# Altium schematic symbol library MCU_ST_STM32F4.SchLib: 300 symbols (part 9 of 11)
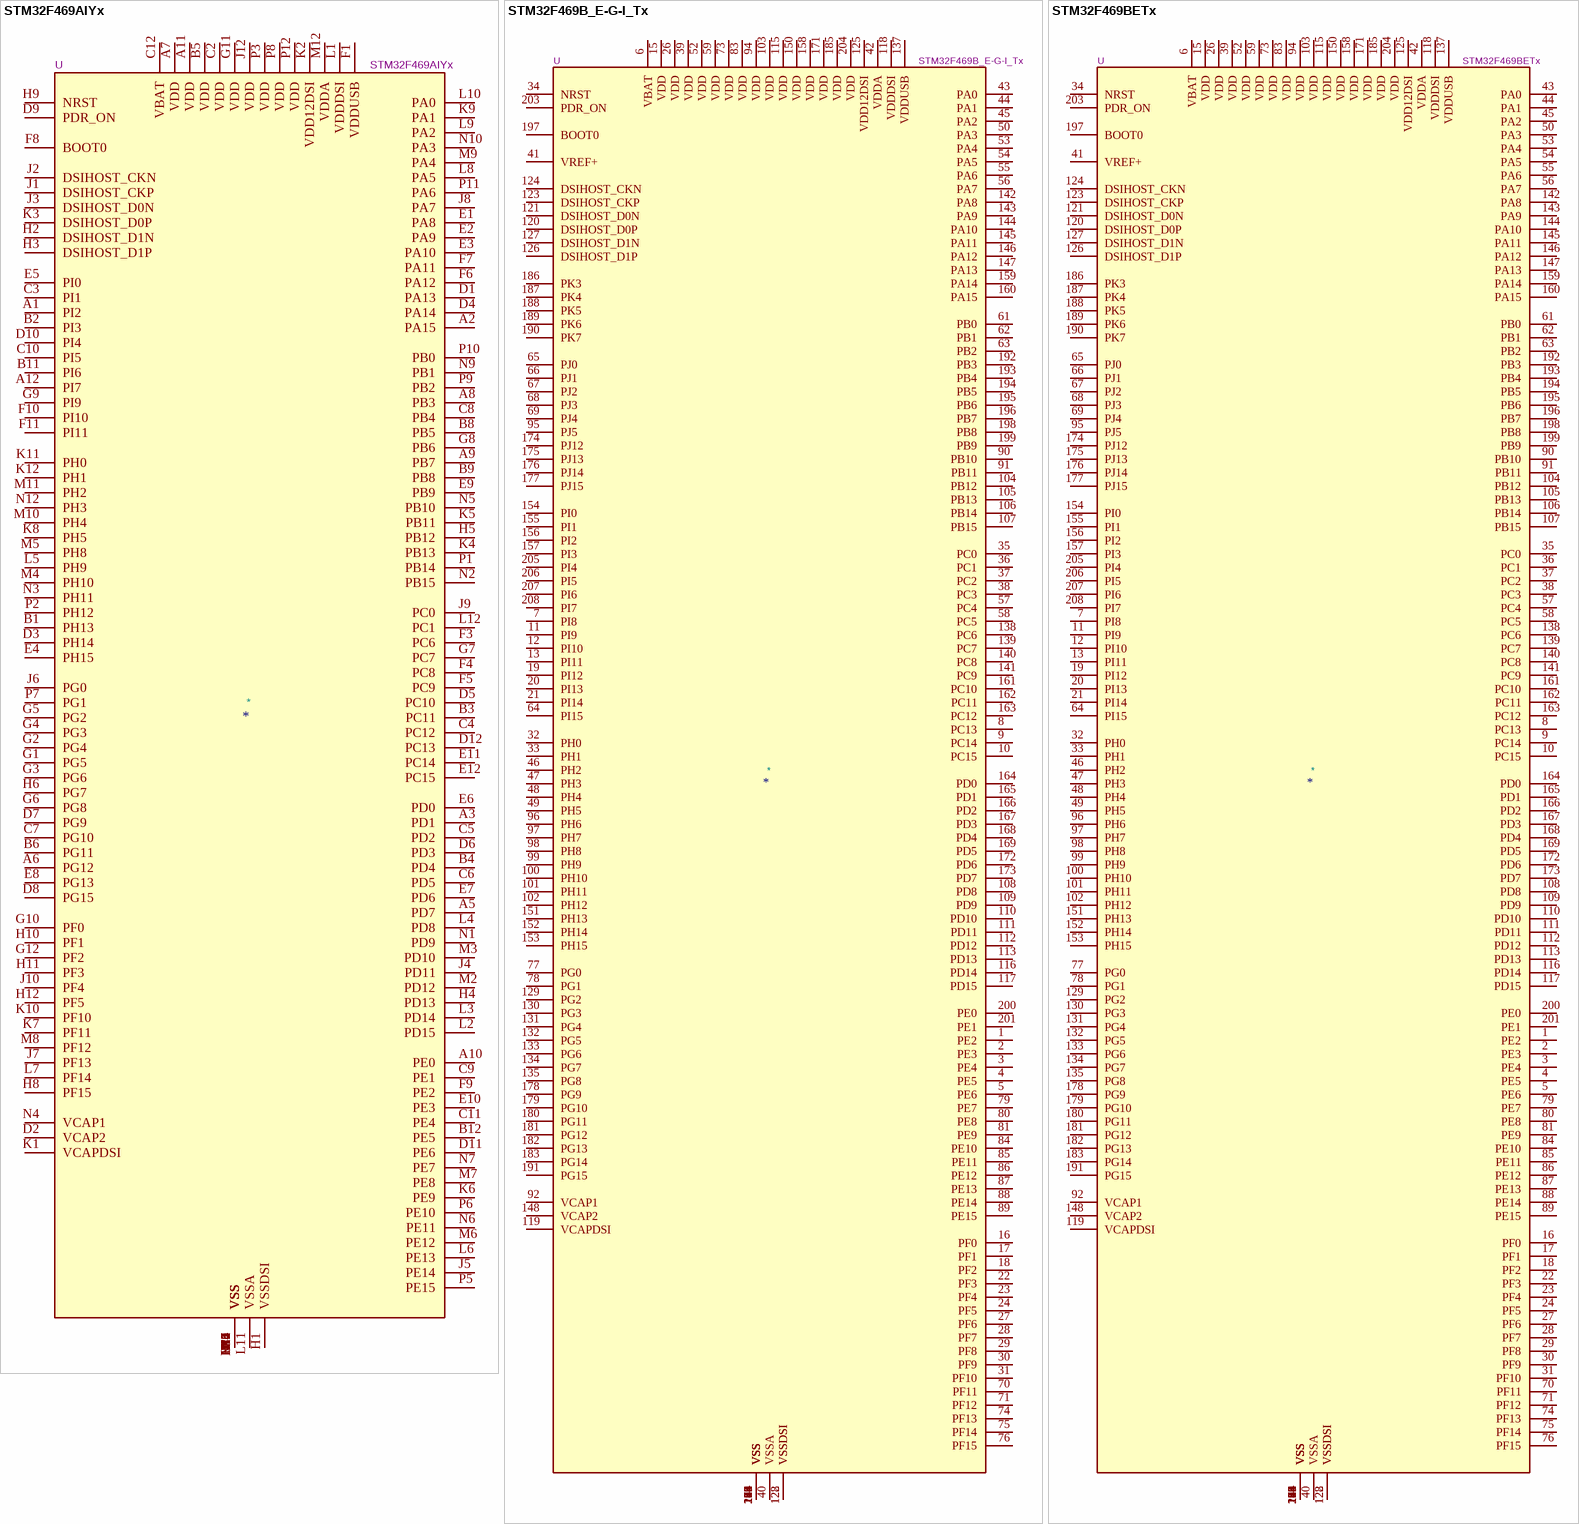
[diagram p90: symbols STM32F469AIYx to STM32F469BETx]

## STM32F469BETx
designator *  value STM32F469BETx  Reference: U
STMicroelectronics Arm Cortex-M4 MCU, 512KB flash, 384KB RAM, 180 MHz, 1.7-3.6V, 159 GPIO, LQFP208; ki_keywords: Arm Cortex-M4 STM32F4 STM32F469/479; ki_fp_filters: LQFP*28x28mm*P0.5mm*; Footprint: Package_QFP:LQFP-208_28x28mm_P0.5mm; Datasheet: https://www.st.com/resource/en/datasheet/stm32f469be.pdf; Description_: STMicroelectronics Arm Cortex-M4 MCU, 512KB flash, 384KB RAM, 180 MHz, 1.7-3.6V, 159 GPIO, LQFP208
pins: 1 PE2, 2 PE3, 3 PE4, 4 PE5, 5 PE6, 6 VBAT, 7 PI8, 8 PC13, 9 PC14, 10 PC15, 11 PI9, 12 PI10, 13 PI11, 14 VSS, 15 VDD, 16 PF0, 17 PF1, 18 PF2, 19 PI12, 20 PI13, 21 PI14, 22 PF3, 23 PF4, 24 PF5, 25 VSS, 26 VDD, 27 PF6, 28 PF7, 29 PF8, 30 PF9, 31 PF10, 32 PH0, 33 PH1, 34 NRST, 35 PC0, 36 PC1, 37 PC2, 38 PC3, 39 VDD, 40 VSSA, 41 VREF+, 42 VDDA, 43 PA0, 44 PA1, 45 PA2, 46 PH2, 47 PH3, 48 PH4, 49 PH5, 50 PA3, 51 VSS, 52 VDD, 53 PA4, 54 PA5, 55 PA6, 56 PA7, 57 PC4, 58 PC5, 59 VDD, 60 VSS, 61 PB0, 62 PB1, 63 PB2, 64 PI15, 65 PJ0, 66 PJ1, 67 PJ2, 68 PJ3, 69 PJ4, 70 PF11, 71 PF12, 72 VSS, 73 VDD, 74 PF13, 75 PF14, 76 PF15, 77 PG0, 78 PG1, 79 PE7, 80 PE8, 81 PE9, 82 VSS, 83 VDD, 84 PE10, 85 PE11, 86 PE12, 87 PE13, 88 PE14, 89 PE15, 90 PB10, 91 PB11, 92 VCAP1, 93 VSS, 94 VDD, 95 PJ5, 96 PH6, 97 PH7, 98 PH8, 99 PH9, 100 PH10, 101 PH11, 102 PH12, 103 VDD, 104 PB12, 105 PB13, 106 PB14, 107 PB15, 108 PD8, 109 PD9, 110 PD10, 111 PD11, 112 PD12, 113 PD13, 114 VSS, 115 VDD, 116 PD14, 117 PD15, 118 VDDDSI, 119 VCAPDSI, 120 DSIHOST_D0P, 121 DSIHOST_D0N, 122 VSSDSI, 123 DSIHOST_CKP, 124 DSIHOST_CKN, 125 VDD12DSI, 126 DSIHOST_D1P, 127 DSIHOST_D1N, 128 VSSDSI, 129 PG2, 130 PG3, 131 PG4, 132 PG5, 133 PG6, 134 PG7, 135 PG8, 136 VSS, 137 VDDUSB, 138 PC6, 139 PC7, 140 PC8, 141 PC9, 142 PA8, 143 PA9, 144 PA10, 145 PA11, 146 PA12, 147 PA13, 148 VCAP2, 149 VSS, 150 VDD, 151 PH13, 152 PH14, 153 PH15, 154 PI0, 155 PI1, 156 PI2, 157 PI3, 158 VDD, 159 PA14, 160 PA15, 161 PC10, 162 PC11, 163 PC12, 164 PD0, 165 PD1, 166 PD2, 167 PD3, 168 PD4, 169 PD5, 170 VSS, 171 VDD, 172 PD6, 173 PD7, 174 PJ12, 175 PJ13, 176 PJ14, 177 PJ15, 178 PG9, 179 PG10, 180 PG11, 181 PG12, 182 PG13, 183 PG14, 184 VSS, 185 VDD, 186 PK3, 187 PK4, 188 PK5, 189 PK6, 190 PK7, 191 PG15, 192 PB3, 193 PB4, 194 PB5, 195 PB6, 196 PB7, 197 BOOT0, 198 PB8, 199 PB9, 200 PE0, 201 PE1, 202 VSS, 203 PDR_ON, 204 VDD, 205 PI4, 206 PI5, 207 PI6, 208 PI7

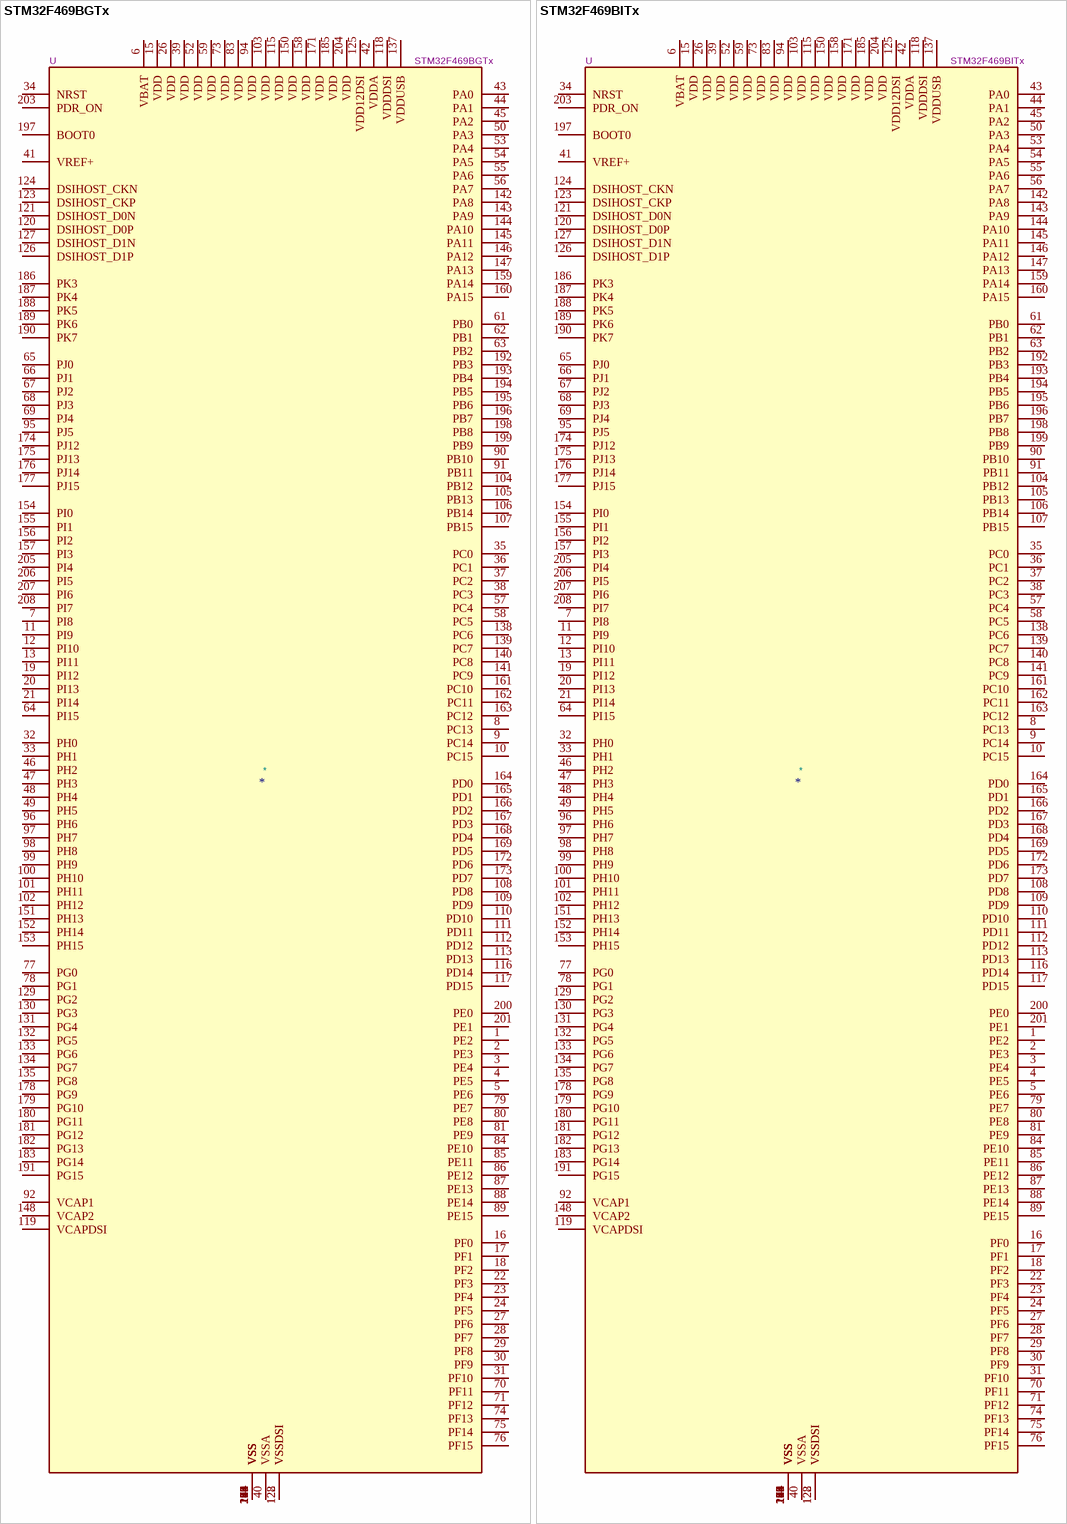
[diagram p64: symbols STM32F469BGTx to STM32F469BITx]

## STM32F469BGTx
designator *  value STM32F469BGTx  Reference: U
STMicroelectronics Arm Cortex-M4 MCU, 1024KB flash, 384KB RAM, 180 MHz, 1.7-3.6V, 159 GPIO, LQFP208; ki_keywords: Arm Cortex-M4 STM32F4 STM32F469/479; ki_fp_filters: LQFP*28x28mm*P0.5mm*; Footprint: Package_QFP:LQFP-208_28x28mm_P0.5mm; Datasheet: https://www.st.com/resource/en/datasheet/stm32f469bg.pdf; Description_: STMicroelectronics Arm Cortex-M4 MCU, 1024KB flash, 384KB RAM, 180 MHz, 1.7-3.6V, 159 GPIO, LQFP208
pins: 1 PE2, 2 PE3, 3 PE4, 4 PE5, 5 PE6, 6 VBAT, 7 PI8, 8 PC13, 9 PC14, 10 PC15, 11 PI9, 12 PI10, 13 PI11, 14 VSS, 15 VDD, 16 PF0, 17 PF1, 18 PF2, 19 PI12, 20 PI13, 21 PI14, 22 PF3, 23 PF4, 24 PF5, 25 VSS, 26 VDD, 27 PF6, 28 PF7, 29 PF8, 30 PF9, 31 PF10, 32 PH0, 33 PH1, 34 NRST, 35 PC0, 36 PC1, 37 PC2, 38 PC3, 39 VDD, 40 VSSA, 41 VREF+, 42 VDDA, 43 PA0, 44 PA1, 45 PA2, 46 PH2, 47 PH3, 48 PH4, 49 PH5, 50 PA3, 51 VSS, 52 VDD, 53 PA4, 54 PA5, 55 PA6, 56 PA7, 57 PC4, 58 PC5, 59 VDD, 60 VSS, 61 PB0, 62 PB1, 63 PB2, 64 PI15, 65 PJ0, 66 PJ1, 67 PJ2, 68 PJ3, 69 PJ4, 70 PF11, 71 PF12, 72 VSS, 73 VDD, 74 PF13, 75 PF14, 76 PF15, 77 PG0, 78 PG1, 79 PE7, 80 PE8, 81 PE9, 82 VSS, 83 VDD, 84 PE10, 85 PE11, 86 PE12, 87 PE13, 88 PE14, 89 PE15, 90 PB10, 91 PB11, 92 VCAP1, 93 VSS, 94 VDD, 95 PJ5, 96 PH6, 97 PH7, 98 PH8, 99 PH9, 100 PH10, 101 PH11, 102 PH12, 103 VDD, 104 PB12, 105 PB13, 106 PB14, 107 PB15, 108 PD8, 109 PD9, 110 PD10, 111 PD11, 112 PD12, 113 PD13, 114 VSS, 115 VDD, 116 PD14, 117 PD15, 118 VDDDSI, 119 VCAPDSI, 120 DSIHOST_D0P, 121 DSIHOST_D0N, 122 VSSDSI, 123 DSIHOST_CKP, 124 DSIHOST_CKN, 125 VDD12DSI, 126 DSIHOST_D1P, 127 DSIHOST_D1N, 128 VSSDSI, 129 PG2, 130 PG3, 131 PG4, 132 PG5, 133 PG6, 134 PG7, 135 PG8, 136 VSS, 137 VDDUSB, 138 PC6, 139 PC7, 140 PC8, 141 PC9, 142 PA8, 143 PA9, 144 PA10, 145 PA11, 146 PA12, 147 PA13, 148 VCAP2, 149 VSS, 150 VDD, 151 PH13, 152 PH14, 153 PH15, 154 PI0, 155 PI1, 156 PI2, 157 PI3, 158 VDD, 159 PA14, 160 PA15, 161 PC10, 162 PC11, 163 PC12, 164 PD0, 165 PD1, 166 PD2, 167 PD3, 168 PD4, 169 PD5, 170 VSS, 171 VDD, 172 PD6, 173 PD7, 174 PJ12, 175 PJ13, 176 PJ14, 177 PJ15, 178 PG9, 179 PG10, 180 PG11, 181 PG12, 182 PG13, 183 PG14, 184 VSS, 185 VDD, 186 PK3, 187 PK4, 188 PK5, 189 PK6, 190 PK7, 191 PG15, 192 PB3, 193 PB4, 194 PB5, 195 PB6, 196 PB7, 197 BOOT0, 198 PB8, 199 PB9, 200 PE0, 201 PE1, 202 VSS, 203 PDR_ON, 204 VDD, 205 PI4, 206 PI5, 207 PI6, 208 PI7

## STM32F469BITx
designator *  value STM32F469BITx  Reference: U
STMicroelectronics Arm Cortex-M4 MCU, 2048KB flash, 384KB RAM, 180 MHz, 1.7-3.6V, 159 GPIO, LQFP208; ki_keywords: Arm Cortex-M4 STM32F4 STM32F469/479; ki_fp_filters: LQFP*28x28mm*P0.5mm*; Footprint: Package_QFP:LQFP-208_28x28mm_P0.5mm; Datasheet: https://www.st.com/resource/en/datasheet/stm32f469bi.pdf; Description_: STMicroelectronics Arm Cortex-M4 MCU, 2048KB flash, 384KB RAM, 180 MHz, 1.7-3.6V, 159 GPIO, LQFP208
pins: 1 PE2, 2 PE3, 3 PE4, 4 PE5, 5 PE6, 6 VBAT, 7 PI8, 8 PC13, 9 PC14, 10 PC15, 11 PI9, 12 PI10, 13 PI11, 14 VSS, 15 VDD, 16 PF0, 17 PF1, 18 PF2, 19 PI12, 20 PI13, 21 PI14, 22 PF3, 23 PF4, 24 PF5, 25 VSS, 26 VDD, 27 PF6, 28 PF7, 29 PF8, 30 PF9, 31 PF10, 32 PH0, 33 PH1, 34 NRST, 35 PC0, 36 PC1, 37 PC2, 38 PC3, 39 VDD, 40 VSSA, 41 VREF+, 42 VDDA, 43 PA0, 44 PA1, 45 PA2, 46 PH2, 47 PH3, 48 PH4, 49 PH5, 50 PA3, 51 VSS, 52 VDD, 53 PA4, 54 PA5, 55 PA6, 56 PA7, 57 PC4, 58 PC5, 59 VDD, 60 VSS, 61 PB0, 62 PB1, 63 PB2, 64 PI15, 65 PJ0, 66 PJ1, 67 PJ2, 68 PJ3, 69 PJ4, 70 PF11, 71 PF12, 72 VSS, 73 VDD, 74 PF13, 75 PF14, 76 PF15, 77 PG0, 78 PG1, 79 PE7, 80 PE8, 81 PE9, 82 VSS, 83 VDD, 84 PE10, 85 PE11, 86 PE12, 87 PE13, 88 PE14, 89 PE15, 90 PB10, 91 PB11, 92 VCAP1, 93 VSS, 94 VDD, 95 PJ5, 96 PH6, 97 PH7, 98 PH8, 99 PH9, 100 PH10, 101 PH11, 102 PH12, 103 VDD, 104 PB12, 105 PB13, 106 PB14, 107 PB15, 108 PD8, 109 PD9, 110 PD10, 111 PD11, 112 PD12, 113 PD13, 114 VSS, 115 VDD, 116 PD14, 117 PD15, 118 VDDDSI, 119 VCAPDSI, 120 DSIHOST_D0P, 121 DSIHOST_D0N, 122 VSSDSI, 123 DSIHOST_CKP, 124 DSIHOST_CKN, 125 VDD12DSI, 126 DSIHOST_D1P, 127 DSIHOST_D1N, 128 VSSDSI, 129 PG2, 130 PG3, 131 PG4, 132 PG5, 133 PG6, 134 PG7, 135 PG8, 136 VSS, 137 VDDUSB, 138 PC6, 139 PC7, 140 PC8, 141 PC9, 142 PA8, 143 PA9, 144 PA10, 145 PA11, 146 PA12, 147 PA13, 148 VCAP2, 149 VSS, 150 VDD, 151 PH13, 152 PH14, 153 PH15, 154 PI0, 155 PI1, 156 PI2, 157 PI3, 158 VDD, 159 PA14, 160 PA15, 161 PC10, 162 PC11, 163 PC12, 164 PD0, 165 PD1, 166 PD2, 167 PD3, 168 PD4, 169 PD5, 170 VSS, 171 VDD, 172 PD6, 173 PD7, 174 PJ12, 175 PJ13, 176 PJ14, 177 PJ15, 178 PG9, 179 PG10, 180 PG11, 181 PG12, 182 PG13, 183 PG14, 184 VSS, 185 VDD, 186 PK3, 187 PK4, 188 PK5, 189 PK6, 190 PK7, 191 PG15, 192 PB3, 193 PB4, 194 PB5, 195 PB6, 196 PB7, 197 BOOT0, 198 PB8, 199 PB9, 200 PE0, 201 PE1, 202 VSS, 203 PDR_ON, 204 VDD, 205 PI4, 206 PI5, 207 PI6, 208 PI7

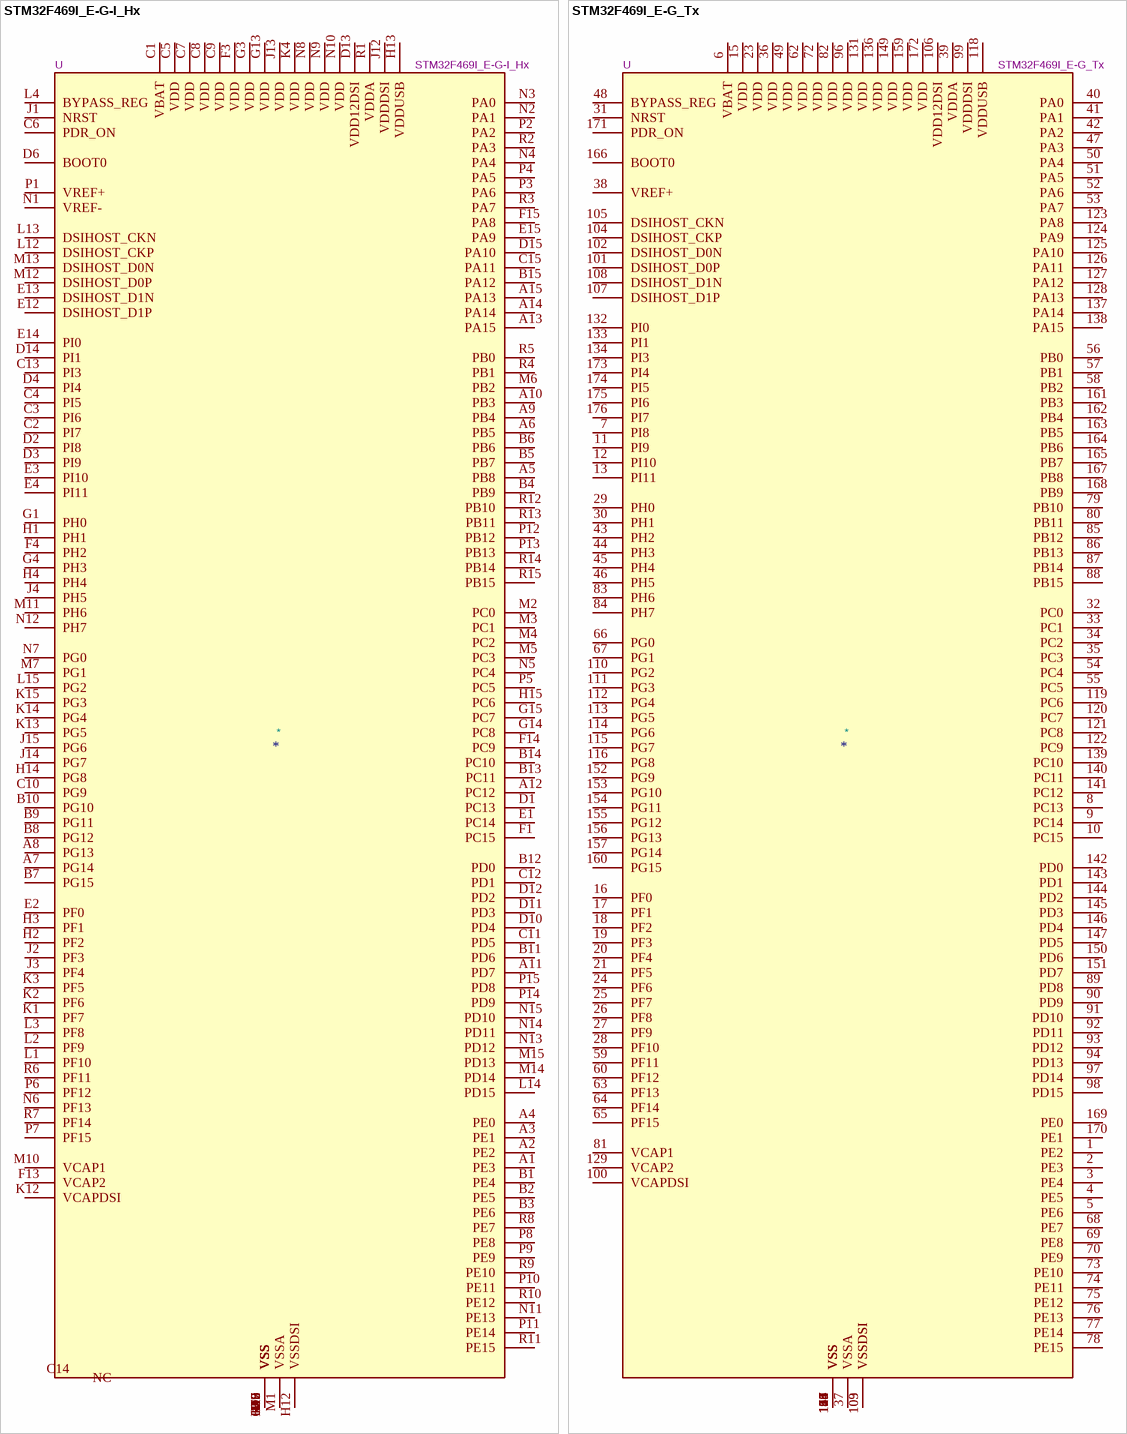
[diagram p65: symbols STM32F469I_E-G-I_Hx to STM32F469I_E-G_Tx]

## STM32F469I_E-G-I_Hx
designator *  value STM32F469I_E-G-I_Hx  Reference: U
STMicroelectronics Arm Cortex-M4 MCU, 512-2048KB flash, 384KB RAM, 180 MHz, 1.7-3.6V, 131 GPIO, UFBGA176; ki_keywords: Arm Cortex-M4 STM32F4 STM32F469/479; ki_fp_filters: UFBGA*10x10mm*Layout15x15*P0.65mm*; Footprint: Package_BGA:UFBGA-201_10x10mm_Layout15x15_P0.65mm; Datasheet: https://www.st.com/resource/en/datasheet/stm32f469ie.pdf; Description_: STMicroelectronics Arm Cortex-M4 MCU, 512-2048KB flash, 384KB RAM, 180 MHz, 1.7-3.6V, 131 GPIO, UFBGA176
pins: A1 PE3, A2 PE2, A3 PE1, A4 PE0, A5 PB8, A6 PB5, A7 PG14, A8 PG13, A9 PB4, A10 PB3, A11 PD7, A12 PC12, A13 PA15, A14 PA14, A15 PA13, B1 PE4, B2 PE5, B3 PE6, B4 PB9, B5 PB7, B6 PB6, B7 PG15, B8 PG12, B9 PG11, B10 PG10, B11 PD6, B12 PD0, B13 PC11, B14 PC10, B15 PA12, C1 VBAT, C2 PI7, C3 PI6, C4 PI5, C5 VDD, C6 PDR_ON, C7 VDD, C8 VDD, C9 VDD, C10 PG9, C11 PD5, C12 PD1, C13 PI3, C14 NC, C15 PA11, D1 PC13, D2 PI8, D3 PI9, D4 PI4, D5 VSS, D6 BOOT0, D7 VSS, D8 VSS, D9 VSS, D10 PD4, D11 PD3, D12 PD2, D13 VDD12DSI, D14 PI1, D15 PA10, E1 PC14, E2 PF0, E3 PI10, E4 PI11, E12 DSIHOST_D1P, E13 DSIHOST_D1N, E14 PI0, E15 PA9, F1 PC15, F2 VSS, F3 VDD, F4 PH2, F6 VSS, F7 VSS, F8 VSS, F9 VSS, F10 VSS, F12 VSS, F13 VCAP2, F14 PC9, F15 PA8, G1 PH0, G2 VSS, G3 VDD, G4 PH3, G6 VSS, G7 VSS, G8 VSS, G9 VSS, G10 VSS, G12 VSS, G13 VDD, G14 PC8, G15 PC7, H1 PH1, H2 PF2, H3 PF1, H4 PH4, H6 VSS, H7 VSS, H8 VSS, H9 VSS, H10 VSS, H12 VSSDSI, H13 VDDUSB, H14 PG8, H15 PC6, J1 NRST, J2 PF3, J3 PF4, J4 PH5, J6 VSS, J7 VSS, J8 VSS, J9 VSS, J10 VSS, J12 VDDDSI, J13 VDD, J14 PG7, J15 PG6, K1 PF7, K2 PF6, K3 PF5, K4 VDD, K6 VSS, K7 VSS, K8 VSS, K9 VSS, K10 VSS, K12 VCAPDSI, K13 PG5, K14 PG4, K15 PG3, L1 PF10, L2 PF9, L3 PF8, L4 BYPASS_REG, L12 DSIHOST_CKP, L13 DSIHOST_CKN, L14 PD15, L15 PG2, M1 VSSA, M2 PC0, M3 PC1, M4 PC2, M5 PC3, M6 PB2, M7 PG1, M8 VSS, M9 VSS, M10 VCAP1, M11 PH6, M12 DSIHOST_D0P, M13 DSIHOST_D0N, M14 PD14, M15 PD13, N1 VREF-, N2 PA1, N3 PA0, N4 PA4, N5 PC4, N6 PF13, N7 PG0, N8 VDD, N9 VDD, N10 VDD, N11 PE13, N12 PH7, N13 PD12, N14 PD11, N15 PD10, P1 VREF+, P2 PA2, P3 PA6, P4 PA5, P5 PC5, P6 PF12, P7 PF15, P8 PE8, P9 PE9, P10 PE11, P11 PE14, P12 PB12, P13 PB13, P14 PD9, P15 PD8, R1 VDDA, R2 PA3, R3 PA7, R4 PB1, R5 PB0, R6 PF11, R7 PF14, R8 PE7, R9 PE10, R10 PE12, R11 PE15, R12 PB10, R13 PB11, R14 PB14, R15 PB15

## STM32F469I_E-G_Tx
designator *  value STM32F469I_E-G_Tx  Reference: U
STMicroelectronics Arm Cortex-M4 MCU, 512-1024KB flash, 384KB RAM, 180 MHz, 1.7-3.6V, 131 GPIO, LQFP176; ki_keywords: Arm Cortex-M4 STM32F4 STM32F469/479; ki_fp_filters: LQFP*24x24mm*P0.5mm*; Footprint: Package_QFP:LQFP-176_24x24mm_P0.5mm; Datasheet: https://www.st.com/resource/en/datasheet/stm32f469ie.pdf; Description_: STMicroelectronics Arm Cortex-M4 MCU, 512-1024KB flash, 384KB RAM, 180 MHz, 1.7-3.6V, 131 GPIO, LQFP176
pins: 1 PE2, 2 PE3, 3 PE4, 4 PE5, 5 PE6, 6 VBAT, 7 PI8, 8 PC13, 9 PC14, 10 PC15, 11 PI9, 12 PI10, 13 PI11, 14 VSS, 15 VDD, 16 PF0, 17 PF1, 18 PF2, 19 PF3, 20 PF4, 21 PF5, 22 VSS, 23 VDD, 24 PF6, 25 PF7, 26 PF8, 27 PF9, 28 PF10, 29 PH0, 30 PH1, 31 NRST, 32 PC0, 33 PC1, 34 PC2, 35 PC3, 36 VDD, 37 VSSA, 38 VREF+, 39 VDDA, 40 PA0, 41 PA1, 42 PA2, 43 PH2, 44 PH3, 45 PH4, 46 PH5, 47 PA3, 48 BYPASS_REG, 49 VDD, 50 PA4, 51 PA5, 52 PA6, 53 PA7, 54 PC4, 55 PC5, 56 PB0, 57 PB1, 58 PB2, 59 PF11, 60 PF12, 61 VSS, 62 VDD, 63 PF13, 64 PF14, 65 PF15, 66 PG0, 67 PG1, 68 PE7, 69 PE8, 70 PE9, 71 VSS, 72 VDD, 73 PE10, 74 PE11, 75 PE12, 76 PE13, 77 PE14, 78 PE15, 79 PB10, 80 PB11, 81 VCAP1, 82 VDD, 83 PH6, 84 PH7, 85 PB12, 86 PB13, 87 PB14, 88 PB15, 89 PD8, 90 PD9, 91 PD10, 92 PD11, 93 PD12, 94 PD13, 95 VSS, 96 VDD, 97 PD14, 98 PD15, 99 VDDDSI, 100 VCAPDSI, 101 DSIHOST_D0P, 102 DSIHOST_D0N, 103 VSSDSI, 104 DSIHOST_CKP, 105 DSIHOST_CKN, 106 VDD12DSI, 107 DSIHOST_D1P, 108 DSIHOST_D1N, 109 VSSDSI, 110 PG2, 111 PG3, 112 PG4, 113 PG5, 114 PG6, 115 PG7, 116 PG8, 117 VSS, 118 VDDUSB, 119 PC6, 120 PC7, 121 PC8, 122 PC9, 123 PA8, 124 PA9, 125 PA10, 126 PA11, 127 PA12, 128 PA13, 129 VCAP2, 130 VSS, 131 VDD, 132 PI0, 133 PI1, 134 PI3, 135 VSS, 136 VDD, 137 PA14, 138 PA15, 139 PC10, 140 PC11, 141 PC12, 142 PD0, 143 PD1, 144 PD2, 145 PD3, 146 PD4, 147 PD5, 148 VSS, 149 VDD, 150 PD6, 151 PD7, 152 PG9, 153 PG10, 154 PG11, 155 PG12, 156 PG13, 157 PG14, 158 VSS, 159 VDD, 160 PG15, 161 PB3, 162 PB4, 163 PB5, 164 PB6, 165 PB7, 166 BOOT0, 167 PB8, 168 PB9, 169 PE0, 170 PE1, 171 PDR_ON, 172 VDD, 173 PI4, 174 PI5, 175 PI6, 176 PI7

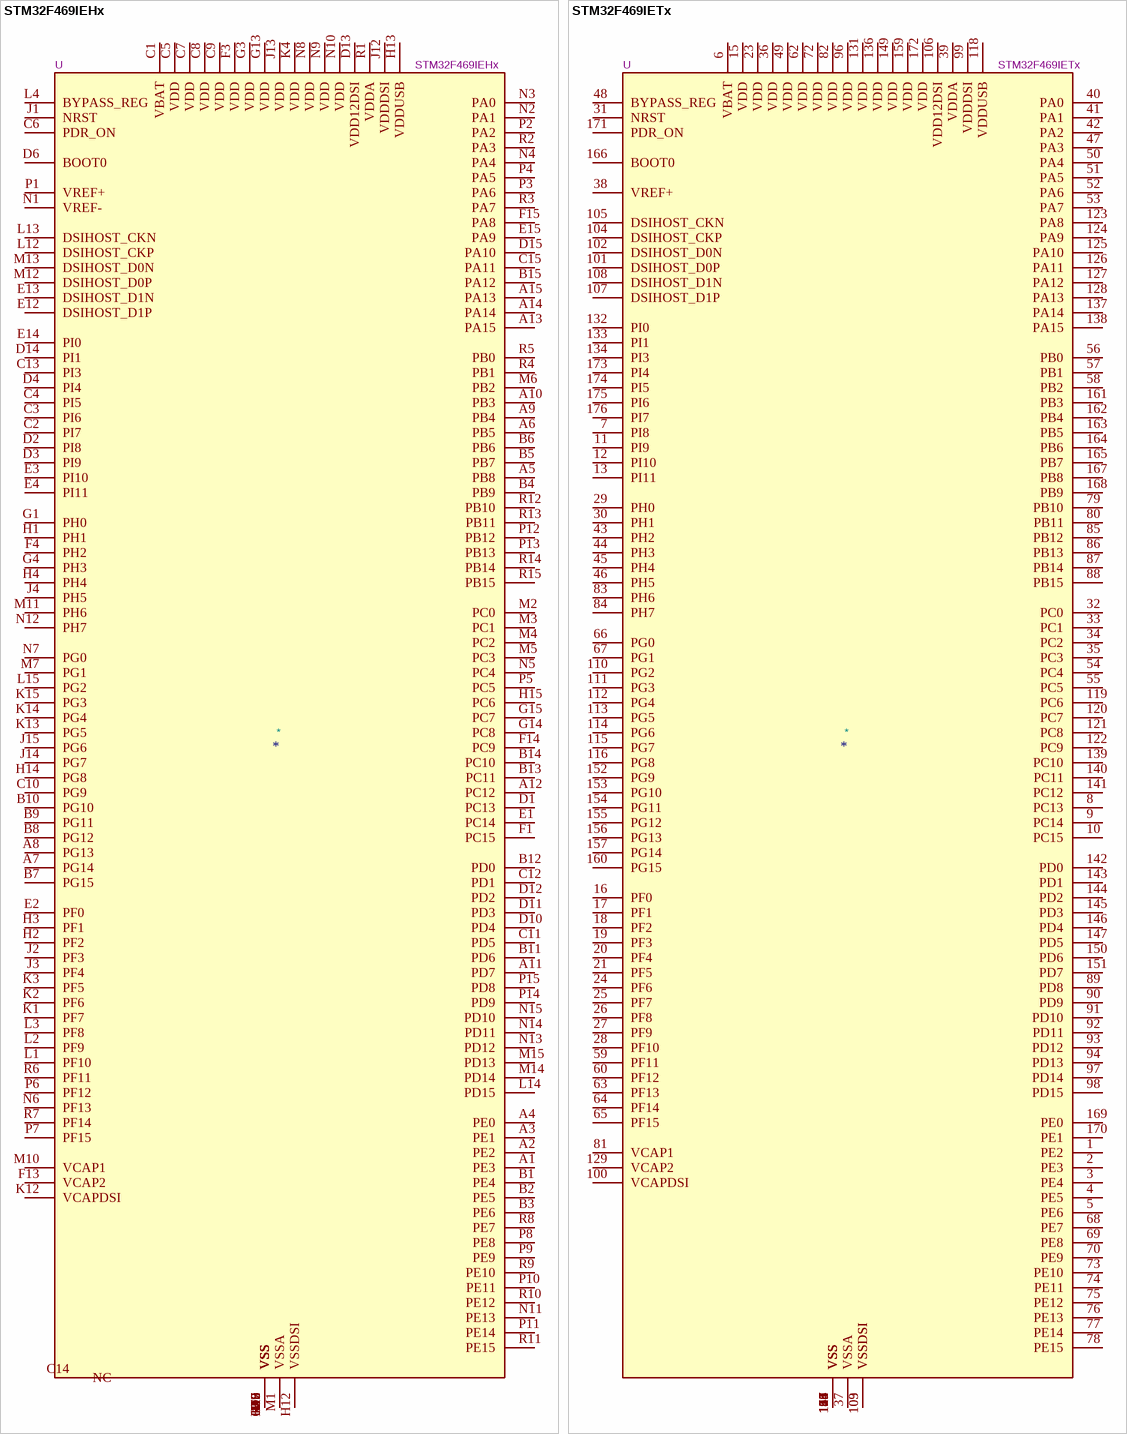
[diagram p66: symbols STM32F469IEHx to STM32F469IETx]

## STM32F469IEHx
designator *  value STM32F469IEHx  Reference: U
STMicroelectronics Arm Cortex-M4 MCU, 512KB flash, 384KB RAM, 180 MHz, 1.7-3.6V, 131 GPIO, UFBGA176; ki_keywords: Arm Cortex-M4 STM32F4 STM32F469/479; ki_fp_filters: UFBGA*10x10mm*Layout15x15*P0.65mm*; Footprint: Package_BGA:UFBGA-201_10x10mm_Layout15x15_P0.65mm; Datasheet: https://www.st.com/resource/en/datasheet/stm32f469ie.pdf; Description_: STMicroelectronics Arm Cortex-M4 MCU, 512KB flash, 384KB RAM, 180 MHz, 1.7-3.6V, 131 GPIO, UFBGA176
pins: A1 PE3, A2 PE2, A3 PE1, A4 PE0, A5 PB8, A6 PB5, A7 PG14, A8 PG13, A9 PB4, A10 PB3, A11 PD7, A12 PC12, A13 PA15, A14 PA14, A15 PA13, B1 PE4, B2 PE5, B3 PE6, B4 PB9, B5 PB7, B6 PB6, B7 PG15, B8 PG12, B9 PG11, B10 PG10, B11 PD6, B12 PD0, B13 PC11, B14 PC10, B15 PA12, C1 VBAT, C2 PI7, C3 PI6, C4 PI5, C5 VDD, C6 PDR_ON, C7 VDD, C8 VDD, C9 VDD, C10 PG9, C11 PD5, C12 PD1, C13 PI3, C14 NC, C15 PA11, D1 PC13, D2 PI8, D3 PI9, D4 PI4, D5 VSS, D6 BOOT0, D7 VSS, D8 VSS, D9 VSS, D10 PD4, D11 PD3, D12 PD2, D13 VDD12DSI, D14 PI1, D15 PA10, E1 PC14, E2 PF0, E3 PI10, E4 PI11, E12 DSIHOST_D1P, E13 DSIHOST_D1N, E14 PI0, E15 PA9, F1 PC15, F2 VSS, F3 VDD, F4 PH2, F6 VSS, F7 VSS, F8 VSS, F9 VSS, F10 VSS, F12 VSS, F13 VCAP2, F14 PC9, F15 PA8, G1 PH0, G2 VSS, G3 VDD, G4 PH3, G6 VSS, G7 VSS, G8 VSS, G9 VSS, G10 VSS, G12 VSS, G13 VDD, G14 PC8, G15 PC7, H1 PH1, H2 PF2, H3 PF1, H4 PH4, H6 VSS, H7 VSS, H8 VSS, H9 VSS, H10 VSS, H12 VSSDSI, H13 VDDUSB, H14 PG8, H15 PC6, J1 NRST, J2 PF3, J3 PF4, J4 PH5, J6 VSS, J7 VSS, J8 VSS, J9 VSS, J10 VSS, J12 VDDDSI, J13 VDD, J14 PG7, J15 PG6, K1 PF7, K2 PF6, K3 PF5, K4 VDD, K6 VSS, K7 VSS, K8 VSS, K9 VSS, K10 VSS, K12 VCAPDSI, K13 PG5, K14 PG4, K15 PG3, L1 PF10, L2 PF9, L3 PF8, L4 BYPASS_REG, L12 DSIHOST_CKP, L13 DSIHOST_CKN, L14 PD15, L15 PG2, M1 VSSA, M2 PC0, M3 PC1, M4 PC2, M5 PC3, M6 PB2, M7 PG1, M8 VSS, M9 VSS, M10 VCAP1, M11 PH6, M12 DSIHOST_D0P, M13 DSIHOST_D0N, M14 PD14, M15 PD13, N1 VREF-, N2 PA1, N3 PA0, N4 PA4, N5 PC4, N6 PF13, N7 PG0, N8 VDD, N9 VDD, N10 VDD, N11 PE13, N12 PH7, N13 PD12, N14 PD11, N15 PD10, P1 VREF+, P2 PA2, P3 PA6, P4 PA5, P5 PC5, P6 PF12, P7 PF15, P8 PE8, P9 PE9, P10 PE11, P11 PE14, P12 PB12, P13 PB13, P14 PD9, P15 PD8, R1 VDDA, R2 PA3, R3 PA7, R4 PB1, R5 PB0, R6 PF11, R7 PF14, R8 PE7, R9 PE10, R10 PE12, R11 PE15, R12 PB10, R13 PB11, R14 PB14, R15 PB15

## STM32F469IETx
designator *  value STM32F469IETx  Reference: U
STMicroelectronics Arm Cortex-M4 MCU, 512KB flash, 384KB RAM, 180 MHz, 1.7-3.6V, 131 GPIO, LQFP176; ki_keywords: Arm Cortex-M4 STM32F4 STM32F469/479; ki_fp_filters: LQFP*24x24mm*P0.5mm*; Footprint: Package_QFP:LQFP-176_24x24mm_P0.5mm; Datasheet: https://www.st.com/resource/en/datasheet/stm32f469ie.pdf; Description_: STMicroelectronics Arm Cortex-M4 MCU, 512KB flash, 384KB RAM, 180 MHz, 1.7-3.6V, 131 GPIO, LQFP176
pins: 1 PE2, 2 PE3, 3 PE4, 4 PE5, 5 PE6, 6 VBAT, 7 PI8, 8 PC13, 9 PC14, 10 PC15, 11 PI9, 12 PI10, 13 PI11, 14 VSS, 15 VDD, 16 PF0, 17 PF1, 18 PF2, 19 PF3, 20 PF4, 21 PF5, 22 VSS, 23 VDD, 24 PF6, 25 PF7, 26 PF8, 27 PF9, 28 PF10, 29 PH0, 30 PH1, 31 NRST, 32 PC0, 33 PC1, 34 PC2, 35 PC3, 36 VDD, 37 VSSA, 38 VREF+, 39 VDDA, 40 PA0, 41 PA1, 42 PA2, 43 PH2, 44 PH3, 45 PH4, 46 PH5, 47 PA3, 48 BYPASS_REG, 49 VDD, 50 PA4, 51 PA5, 52 PA6, 53 PA7, 54 PC4, 55 PC5, 56 PB0, 57 PB1, 58 PB2, 59 PF11, 60 PF12, 61 VSS, 62 VDD, 63 PF13, 64 PF14, 65 PF15, 66 PG0, 67 PG1, 68 PE7, 69 PE8, 70 PE9, 71 VSS, 72 VDD, 73 PE10, 74 PE11, 75 PE12, 76 PE13, 77 PE14, 78 PE15, 79 PB10, 80 PB11, 81 VCAP1, 82 VDD, 83 PH6, 84 PH7, 85 PB12, 86 PB13, 87 PB14, 88 PB15, 89 PD8, 90 PD9, 91 PD10, 92 PD11, 93 PD12, 94 PD13, 95 VSS, 96 VDD, 97 PD14, 98 PD15, 99 VDDDSI, 100 VCAPDSI, 101 DSIHOST_D0P, 102 DSIHOST_D0N, 103 VSSDSI, 104 DSIHOST_CKP, 105 DSIHOST_CKN, 106 VDD12DSI, 107 DSIHOST_D1P, 108 DSIHOST_D1N, 109 VSSDSI, 110 PG2, 111 PG3, 112 PG4, 113 PG5, 114 PG6, 115 PG7, 116 PG8, 117 VSS, 118 VDDUSB, 119 PC6, 120 PC7, 121 PC8, 122 PC9, 123 PA8, 124 PA9, 125 PA10, 126 PA11, 127 PA12, 128 PA13, 129 VCAP2, 130 VSS, 131 VDD, 132 PI0, 133 PI1, 134 PI3, 135 VSS, 136 VDD, 137 PA14, 138 PA15, 139 PC10, 140 PC11, 141 PC12, 142 PD0, 143 PD1, 144 PD2, 145 PD3, 146 PD4, 147 PD5, 148 VSS, 149 VDD, 150 PD6, 151 PD7, 152 PG9, 153 PG10, 154 PG11, 155 PG12, 156 PG13, 157 PG14, 158 VSS, 159 VDD, 160 PG15, 161 PB3, 162 PB4, 163 PB5, 164 PB6, 165 PB7, 166 BOOT0, 167 PB8, 168 PB9, 169 PE0, 170 PE1, 171 PDR_ON, 172 VDD, 173 PI4, 174 PI5, 175 PI6, 176 PI7

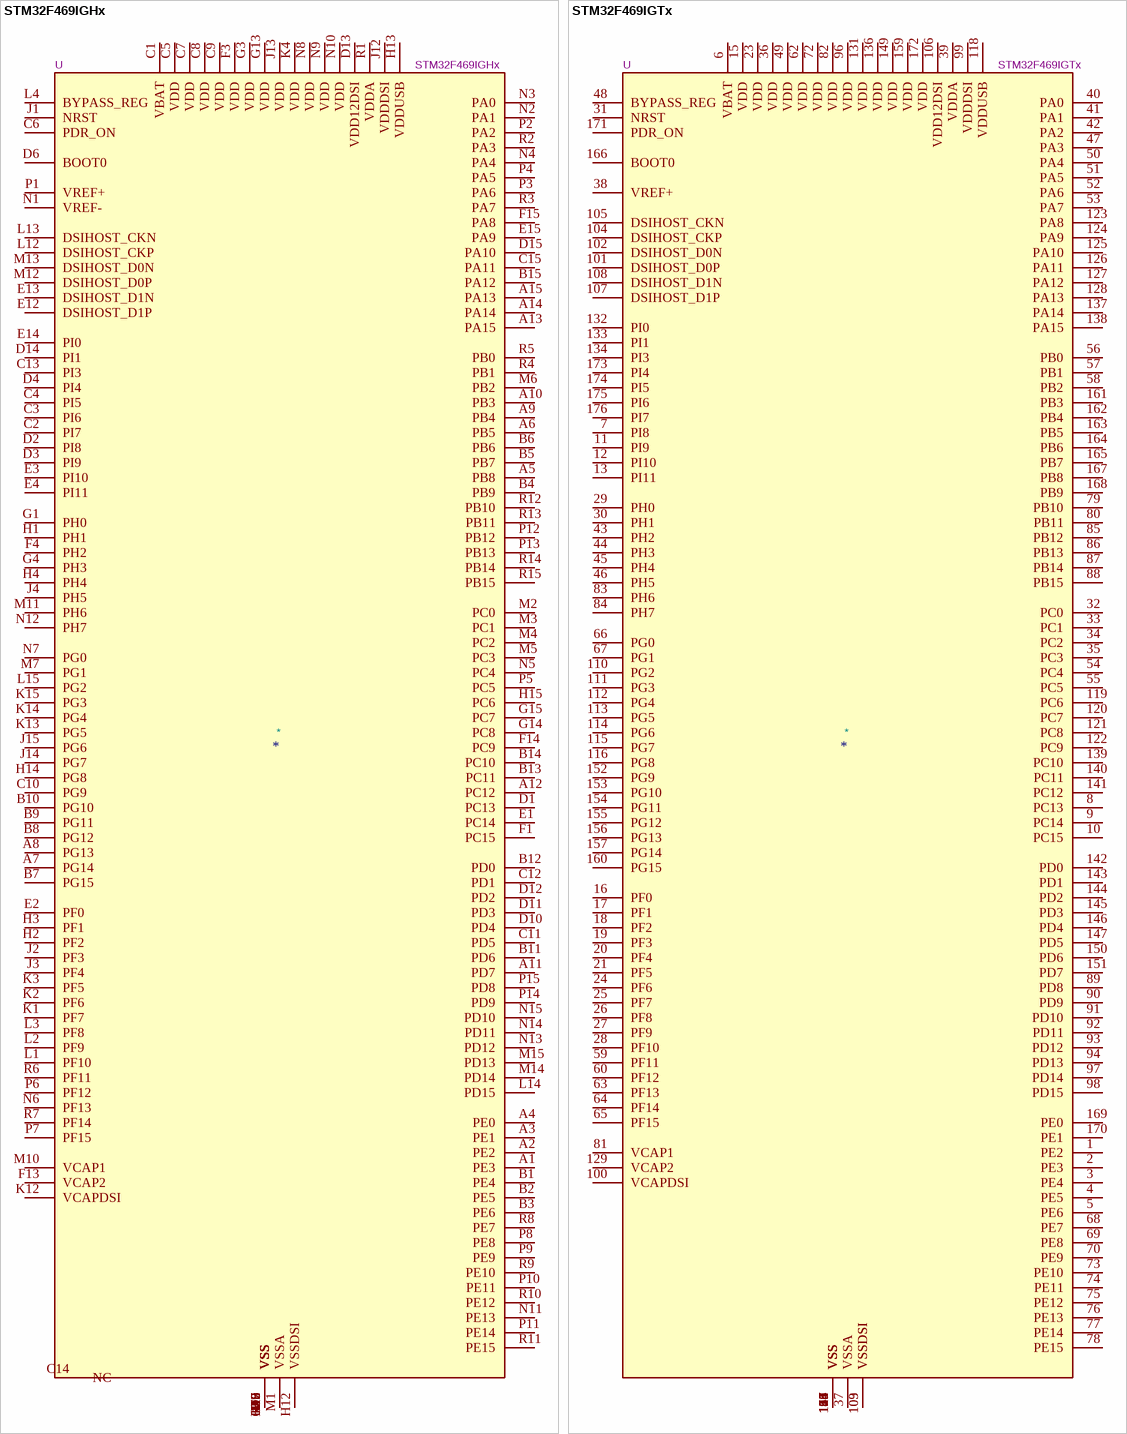
[diagram p67: symbols STM32F469IGHx to STM32F469IGTx]

## STM32F469IGHx
designator *  value STM32F469IGHx  Reference: U
STMicroelectronics Arm Cortex-M4 MCU, 1024KB flash, 384KB RAM, 180 MHz, 1.7-3.6V, 131 GPIO, UFBGA176; ki_keywords: Arm Cortex-M4 STM32F4 STM32F469/479; ki_fp_filters: UFBGA*10x10mm*Layout15x15*P0.65mm*; Footprint: Package_BGA:UFBGA-201_10x10mm_Layout15x15_P0.65mm; Datasheet: https://www.st.com/resource/en/datasheet/stm32f469ig.pdf; Description_: STMicroelectronics Arm Cortex-M4 MCU, 1024KB flash, 384KB RAM, 180 MHz, 1.7-3.6V, 131 GPIO, UFBGA176
pins: A1 PE3, A2 PE2, A3 PE1, A4 PE0, A5 PB8, A6 PB5, A7 PG14, A8 PG13, A9 PB4, A10 PB3, A11 PD7, A12 PC12, A13 PA15, A14 PA14, A15 PA13, B1 PE4, B2 PE5, B3 PE6, B4 PB9, B5 PB7, B6 PB6, B7 PG15, B8 PG12, B9 PG11, B10 PG10, B11 PD6, B12 PD0, B13 PC11, B14 PC10, B15 PA12, C1 VBAT, C2 PI7, C3 PI6, C4 PI5, C5 VDD, C6 PDR_ON, C7 VDD, C8 VDD, C9 VDD, C10 PG9, C11 PD5, C12 PD1, C13 PI3, C14 NC, C15 PA11, D1 PC13, D2 PI8, D3 PI9, D4 PI4, D5 VSS, D6 BOOT0, D7 VSS, D8 VSS, D9 VSS, D10 PD4, D11 PD3, D12 PD2, D13 VDD12DSI, D14 PI1, D15 PA10, E1 PC14, E2 PF0, E3 PI10, E4 PI11, E12 DSIHOST_D1P, E13 DSIHOST_D1N, E14 PI0, E15 PA9, F1 PC15, F2 VSS, F3 VDD, F4 PH2, F6 VSS, F7 VSS, F8 VSS, F9 VSS, F10 VSS, F12 VSS, F13 VCAP2, F14 PC9, F15 PA8, G1 PH0, G2 VSS, G3 VDD, G4 PH3, G6 VSS, G7 VSS, G8 VSS, G9 VSS, G10 VSS, G12 VSS, G13 VDD, G14 PC8, G15 PC7, H1 PH1, H2 PF2, H3 PF1, H4 PH4, H6 VSS, H7 VSS, H8 VSS, H9 VSS, H10 VSS, H12 VSSDSI, H13 VDDUSB, H14 PG8, H15 PC6, J1 NRST, J2 PF3, J3 PF4, J4 PH5, J6 VSS, J7 VSS, J8 VSS, J9 VSS, J10 VSS, J12 VDDDSI, J13 VDD, J14 PG7, J15 PG6, K1 PF7, K2 PF6, K3 PF5, K4 VDD, K6 VSS, K7 VSS, K8 VSS, K9 VSS, K10 VSS, K12 VCAPDSI, K13 PG5, K14 PG4, K15 PG3, L1 PF10, L2 PF9, L3 PF8, L4 BYPASS_REG, L12 DSIHOST_CKP, L13 DSIHOST_CKN, L14 PD15, L15 PG2, M1 VSSA, M2 PC0, M3 PC1, M4 PC2, M5 PC3, M6 PB2, M7 PG1, M8 VSS, M9 VSS, M10 VCAP1, M11 PH6, M12 DSIHOST_D0P, M13 DSIHOST_D0N, M14 PD14, M15 PD13, N1 VREF-, N2 PA1, N3 PA0, N4 PA4, N5 PC4, N6 PF13, N7 PG0, N8 VDD, N9 VDD, N10 VDD, N11 PE13, N12 PH7, N13 PD12, N14 PD11, N15 PD10, P1 VREF+, P2 PA2, P3 PA6, P4 PA5, P5 PC5, P6 PF12, P7 PF15, P8 PE8, P9 PE9, P10 PE11, P11 PE14, P12 PB12, P13 PB13, P14 PD9, P15 PD8, R1 VDDA, R2 PA3, R3 PA7, R4 PB1, R5 PB0, R6 PF11, R7 PF14, R8 PE7, R9 PE10, R10 PE12, R11 PE15, R12 PB10, R13 PB11, R14 PB14, R15 PB15

## STM32F469IGTx
designator *  value STM32F469IGTx  Reference: U
STMicroelectronics Arm Cortex-M4 MCU, 1024KB flash, 384KB RAM, 180 MHz, 1.7-3.6V, 131 GPIO, LQFP176; ki_keywords: Arm Cortex-M4 STM32F4 STM32F469/479; ki_fp_filters: LQFP*24x24mm*P0.5mm*; Footprint: Package_QFP:LQFP-176_24x24mm_P0.5mm; Datasheet: https://www.st.com/resource/en/datasheet/stm32f469ig.pdf; Description_: STMicroelectronics Arm Cortex-M4 MCU, 1024KB flash, 384KB RAM, 180 MHz, 1.7-3.6V, 131 GPIO, LQFP176
pins: 1 PE2, 2 PE3, 3 PE4, 4 PE5, 5 PE6, 6 VBAT, 7 PI8, 8 PC13, 9 PC14, 10 PC15, 11 PI9, 12 PI10, 13 PI11, 14 VSS, 15 VDD, 16 PF0, 17 PF1, 18 PF2, 19 PF3, 20 PF4, 21 PF5, 22 VSS, 23 VDD, 24 PF6, 25 PF7, 26 PF8, 27 PF9, 28 PF10, 29 PH0, 30 PH1, 31 NRST, 32 PC0, 33 PC1, 34 PC2, 35 PC3, 36 VDD, 37 VSSA, 38 VREF+, 39 VDDA, 40 PA0, 41 PA1, 42 PA2, 43 PH2, 44 PH3, 45 PH4, 46 PH5, 47 PA3, 48 BYPASS_REG, 49 VDD, 50 PA4, 51 PA5, 52 PA6, 53 PA7, 54 PC4, 55 PC5, 56 PB0, 57 PB1, 58 PB2, 59 PF11, 60 PF12, 61 VSS, 62 VDD, 63 PF13, 64 PF14, 65 PF15, 66 PG0, 67 PG1, 68 PE7, 69 PE8, 70 PE9, 71 VSS, 72 VDD, 73 PE10, 74 PE11, 75 PE12, 76 PE13, 77 PE14, 78 PE15, 79 PB10, 80 PB11, 81 VCAP1, 82 VDD, 83 PH6, 84 PH7, 85 PB12, 86 PB13, 87 PB14, 88 PB15, 89 PD8, 90 PD9, 91 PD10, 92 PD11, 93 PD12, 94 PD13, 95 VSS, 96 VDD, 97 PD14, 98 PD15, 99 VDDDSI, 100 VCAPDSI, 101 DSIHOST_D0P, 102 DSIHOST_D0N, 103 VSSDSI, 104 DSIHOST_CKP, 105 DSIHOST_CKN, 106 VDD12DSI, 107 DSIHOST_D1P, 108 DSIHOST_D1N, 109 VSSDSI, 110 PG2, 111 PG3, 112 PG4, 113 PG5, 114 PG6, 115 PG7, 116 PG8, 117 VSS, 118 VDDUSB, 119 PC6, 120 PC7, 121 PC8, 122 PC9, 123 PA8, 124 PA9, 125 PA10, 126 PA11, 127 PA12, 128 PA13, 129 VCAP2, 130 VSS, 131 VDD, 132 PI0, 133 PI1, 134 PI3, 135 VSS, 136 VDD, 137 PA14, 138 PA15, 139 PC10, 140 PC11, 141 PC12, 142 PD0, 143 PD1, 144 PD2, 145 PD3, 146 PD4, 147 PD5, 148 VSS, 149 VDD, 150 PD6, 151 PD7, 152 PG9, 153 PG10, 154 PG11, 155 PG12, 156 PG13, 157 PG14, 158 VSS, 159 VDD, 160 PG15, 161 PB3, 162 PB4, 163 PB5, 164 PB6, 165 PB7, 166 BOOT0, 167 PB8, 168 PB9, 169 PE0, 170 PE1, 171 PDR_ON, 172 VDD, 173 PI4, 174 PI5, 175 PI6, 176 PI7

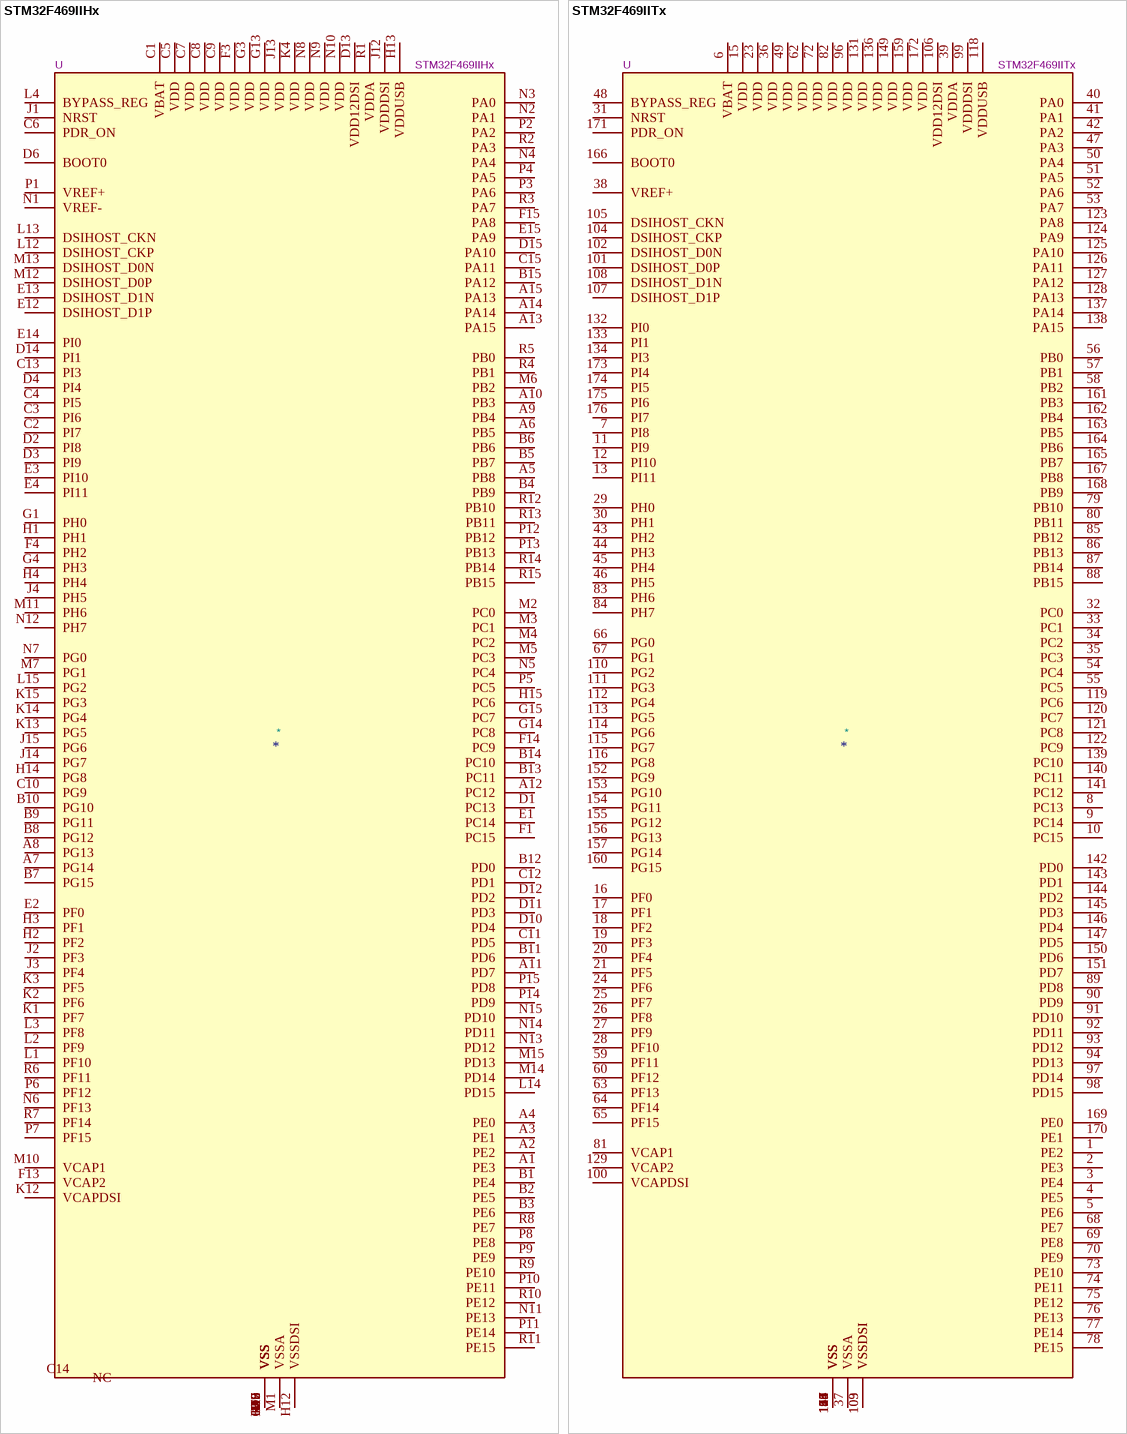
[diagram p68: symbols STM32F469IIHx to STM32F469IITx]

## STM32F469IIHx
designator *  value STM32F469IIHx  Reference: U
STMicroelectronics Arm Cortex-M4 MCU, 2048KB flash, 384KB RAM, 180 MHz, 1.7-3.6V, 131 GPIO, UFBGA176; ki_keywords: Arm Cortex-M4 STM32F4 STM32F469/479; ki_fp_filters: UFBGA*10x10mm*Layout15x15*P0.65mm*; Footprint: Package_BGA:UFBGA-201_10x10mm_Layout15x15_P0.65mm; Datasheet: https://www.st.com/resource/en/datasheet/stm32f469ii.pdf; Description_: STMicroelectronics Arm Cortex-M4 MCU, 2048KB flash, 384KB RAM, 180 MHz, 1.7-3.6V, 131 GPIO, UFBGA176
pins: A1 PE3, A2 PE2, A3 PE1, A4 PE0, A5 PB8, A6 PB5, A7 PG14, A8 PG13, A9 PB4, A10 PB3, A11 PD7, A12 PC12, A13 PA15, A14 PA14, A15 PA13, B1 PE4, B2 PE5, B3 PE6, B4 PB9, B5 PB7, B6 PB6, B7 PG15, B8 PG12, B9 PG11, B10 PG10, B11 PD6, B12 PD0, B13 PC11, B14 PC10, B15 PA12, C1 VBAT, C2 PI7, C3 PI6, C4 PI5, C5 VDD, C6 PDR_ON, C7 VDD, C8 VDD, C9 VDD, C10 PG9, C11 PD5, C12 PD1, C13 PI3, C14 NC, C15 PA11, D1 PC13, D2 PI8, D3 PI9, D4 PI4, D5 VSS, D6 BOOT0, D7 VSS, D8 VSS, D9 VSS, D10 PD4, D11 PD3, D12 PD2, D13 VDD12DSI, D14 PI1, D15 PA10, E1 PC14, E2 PF0, E3 PI10, E4 PI11, E12 DSIHOST_D1P, E13 DSIHOST_D1N, E14 PI0, E15 PA9, F1 PC15, F2 VSS, F3 VDD, F4 PH2, F6 VSS, F7 VSS, F8 VSS, F9 VSS, F10 VSS, F12 VSS, F13 VCAP2, F14 PC9, F15 PA8, G1 PH0, G2 VSS, G3 VDD, G4 PH3, G6 VSS, G7 VSS, G8 VSS, G9 VSS, G10 VSS, G12 VSS, G13 VDD, G14 PC8, G15 PC7, H1 PH1, H2 PF2, H3 PF1, H4 PH4, H6 VSS, H7 VSS, H8 VSS, H9 VSS, H10 VSS, H12 VSSDSI, H13 VDDUSB, H14 PG8, H15 PC6, J1 NRST, J2 PF3, J3 PF4, J4 PH5, J6 VSS, J7 VSS, J8 VSS, J9 VSS, J10 VSS, J12 VDDDSI, J13 VDD, J14 PG7, J15 PG6, K1 PF7, K2 PF6, K3 PF5, K4 VDD, K6 VSS, K7 VSS, K8 VSS, K9 VSS, K10 VSS, K12 VCAPDSI, K13 PG5, K14 PG4, K15 PG3, L1 PF10, L2 PF9, L3 PF8, L4 BYPASS_REG, L12 DSIHOST_CKP, L13 DSIHOST_CKN, L14 PD15, L15 PG2, M1 VSSA, M2 PC0, M3 PC1, M4 PC2, M5 PC3, M6 PB2, M7 PG1, M8 VSS, M9 VSS, M10 VCAP1, M11 PH6, M12 DSIHOST_D0P, M13 DSIHOST_D0N, M14 PD14, M15 PD13, N1 VREF-, N2 PA1, N3 PA0, N4 PA4, N5 PC4, N6 PF13, N7 PG0, N8 VDD, N9 VDD, N10 VDD, N11 PE13, N12 PH7, N13 PD12, N14 PD11, N15 PD10, P1 VREF+, P2 PA2, P3 PA6, P4 PA5, P5 PC5, P6 PF12, P7 PF15, P8 PE8, P9 PE9, P10 PE11, P11 PE14, P12 PB12, P13 PB13, P14 PD9, P15 PD8, R1 VDDA, R2 PA3, R3 PA7, R4 PB1, R5 PB0, R6 PF11, R7 PF14, R8 PE7, R9 PE10, R10 PE12, R11 PE15, R12 PB10, R13 PB11, R14 PB14, R15 PB15

## STM32F469IITx
designator *  value STM32F469IITx  Reference: U
STMicroelectronics Arm Cortex-M4 MCU, 2048KB flash, 384KB RAM, 180 MHz, 1.7-3.6V, 131 GPIO, LQFP176; ki_keywords: Arm Cortex-M4 STM32F4 STM32F469/479; ki_fp_filters: LQFP*24x24mm*P0.5mm*; Footprint: Package_QFP:LQFP-176_24x24mm_P0.5mm; Datasheet: https://www.st.com/resource/en/datasheet/stm32f469ii.pdf; Description_: STMicroelectronics Arm Cortex-M4 MCU, 2048KB flash, 384KB RAM, 180 MHz, 1.7-3.6V, 131 GPIO, LQFP176
pins: 1 PE2, 2 PE3, 3 PE4, 4 PE5, 5 PE6, 6 VBAT, 7 PI8, 8 PC13, 9 PC14, 10 PC15, 11 PI9, 12 PI10, 13 PI11, 14 VSS, 15 VDD, 16 PF0, 17 PF1, 18 PF2, 19 PF3, 20 PF4, 21 PF5, 22 VSS, 23 VDD, 24 PF6, 25 PF7, 26 PF8, 27 PF9, 28 PF10, 29 PH0, 30 PH1, 31 NRST, 32 PC0, 33 PC1, 34 PC2, 35 PC3, 36 VDD, 37 VSSA, 38 VREF+, 39 VDDA, 40 PA0, 41 PA1, 42 PA2, 43 PH2, 44 PH3, 45 PH4, 46 PH5, 47 PA3, 48 BYPASS_REG, 49 VDD, 50 PA4, 51 PA5, 52 PA6, 53 PA7, 54 PC4, 55 PC5, 56 PB0, 57 PB1, 58 PB2, 59 PF11, 60 PF12, 61 VSS, 62 VDD, 63 PF13, 64 PF14, 65 PF15, 66 PG0, 67 PG1, 68 PE7, 69 PE8, 70 PE9, 71 VSS, 72 VDD, 73 PE10, 74 PE11, 75 PE12, 76 PE13, 77 PE14, 78 PE15, 79 PB10, 80 PB11, 81 VCAP1, 82 VDD, 83 PH6, 84 PH7, 85 PB12, 86 PB13, 87 PB14, 88 PB15, 89 PD8, 90 PD9, 91 PD10, 92 PD11, 93 PD12, 94 PD13, 95 VSS, 96 VDD, 97 PD14, 98 PD15, 99 VDDDSI, 100 VCAPDSI, 101 DSIHOST_D0P, 102 DSIHOST_D0N, 103 VSSDSI, 104 DSIHOST_CKP, 105 DSIHOST_CKN, 106 VDD12DSI, 107 DSIHOST_D1P, 108 DSIHOST_D1N, 109 VSSDSI, 110 PG2, 111 PG3, 112 PG4, 113 PG5, 114 PG6, 115 PG7, 116 PG8, 117 VSS, 118 VDDUSB, 119 PC6, 120 PC7, 121 PC8, 122 PC9, 123 PA8, 124 PA9, 125 PA10, 126 PA11, 127 PA12, 128 PA13, 129 VCAP2, 130 VSS, 131 VDD, 132 PI0, 133 PI1, 134 PI3, 135 VSS, 136 VDD, 137 PA14, 138 PA15, 139 PC10, 140 PC11, 141 PC12, 142 PD0, 143 PD1, 144 PD2, 145 PD3, 146 PD4, 147 PD5, 148 VSS, 149 VDD, 150 PD6, 151 PD7, 152 PG9, 153 PG10, 154 PG11, 155 PG12, 156 PG13, 157 PG14, 158 VSS, 159 VDD, 160 PG15, 161 PB3, 162 PB4, 163 PB5, 164 PB6, 165 PB7, 166 BOOT0, 167 PB8, 168 PB9, 169 PE0, 170 PE1, 171 PDR_ON, 172 VDD, 173 PI4, 174 PI5, 175 PI6, 176 PI7

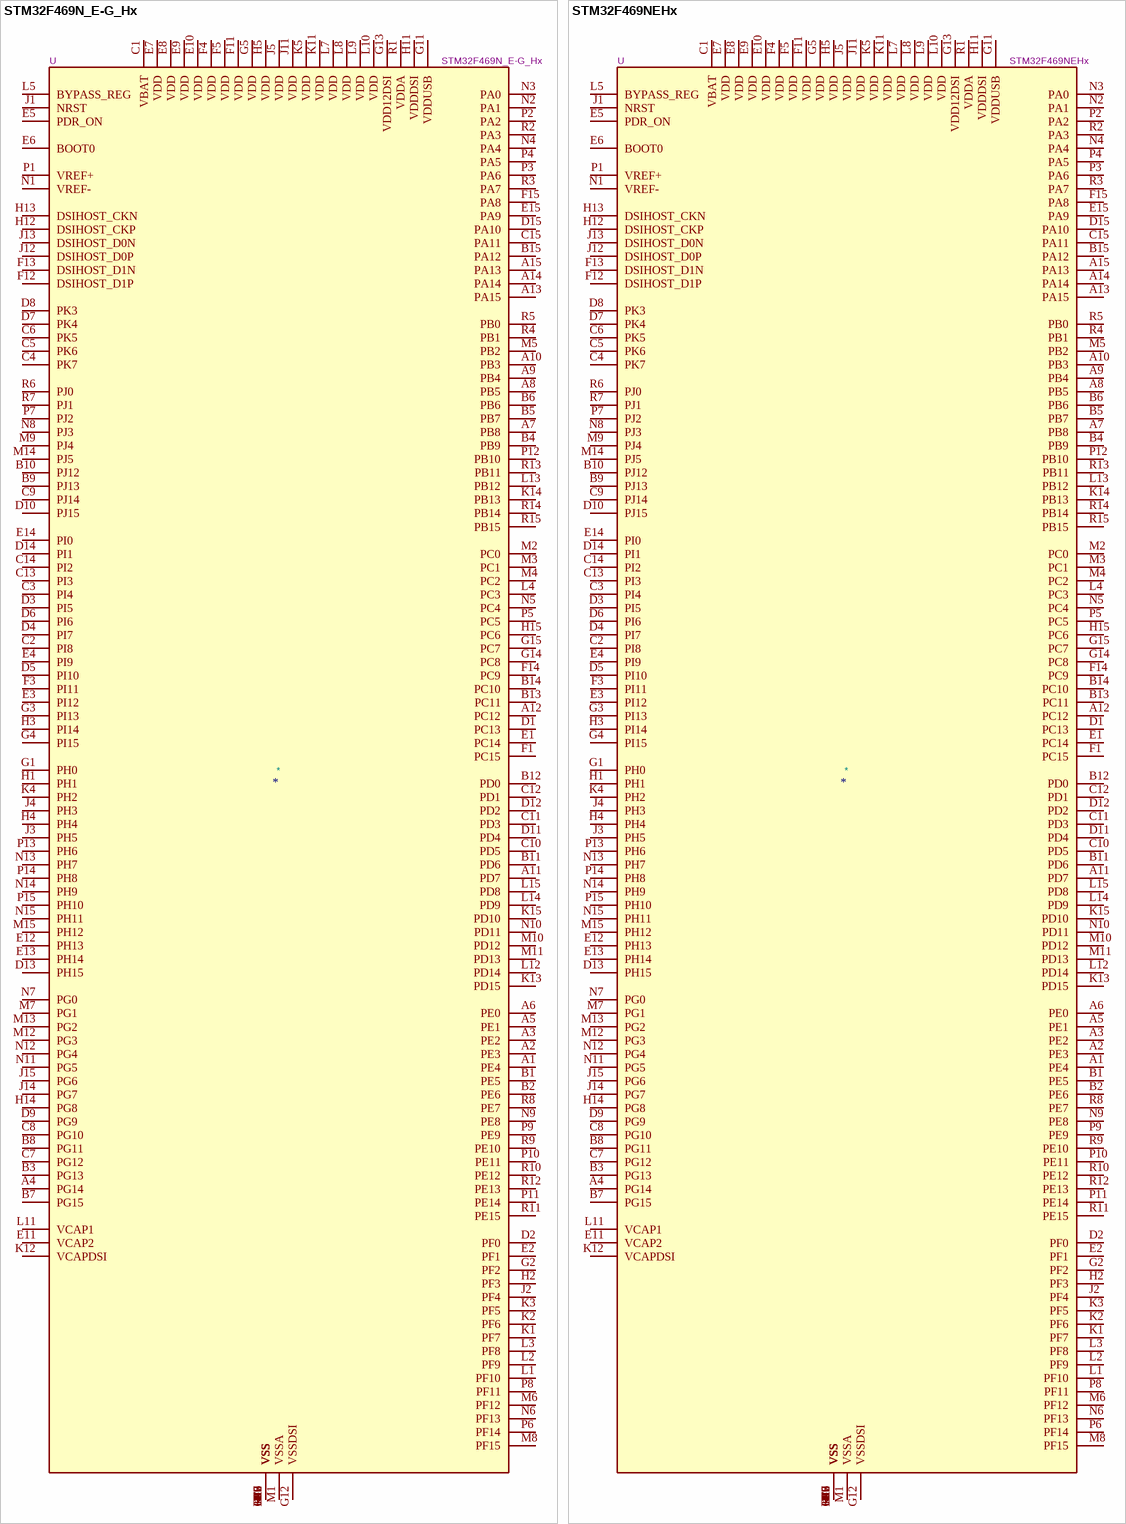
[diagram p69: symbols STM32F469N_E-G_Hx to STM32F469NEHx]

## STM32F469N_E-G_Hx
designator *  value STM32F469N_E-G_Hx  Reference: U
STMicroelectronics Arm Cortex-M4 MCU, 512-1024KB flash, 384KB RAM, 180 MHz, 1.7-3.6V, 159 GPIO, TFBGA216; ki_keywords: Arm Cortex-M4 STM32F4 STM32F469/479; ki_fp_filters: TFBGA*13x13mm*Layout15x15*P0.8mm*; Footprint: Package_BGA:TFBGA-216_13x13mm_Layout15x15_P0.8mm; Datasheet: https://www.st.com/resource/en/datasheet/stm32f469ne.pdf; Description_: STMicroelectronics Arm Cortex-M4 MCU, 512-1024KB flash, 384KB RAM, 180 MHz, 1.7-3.6V, 159 GPIO, TFBGA216
pins: A1 PE4, A2 PE3, A3 PE2, A4 PG14, A5 PE1, A6 PE0, A7 PB8, A8 PB5, A9 PB4, A10 PB3, A11 PD7, A12 PC12, A13 PA15, A14 PA14, A15 PA13, B1 PE5, B2 PE6, B3 PG13, B4 PB9, B5 PB7, B6 PB6, B7 PG15, B8 PG11, B9 PJ13, B10 PJ12, B11 PD6, B12 PD0, B13 PC11, B14 PC10, B15 PA12, C1 VBAT, C2 PI8, C3 PI4, C4 PK7, C5 PK6, C6 PK5, C7 PG12, C8 PG10, C9 PJ14, C10 PD5, C11 PD3, C12 PD1, C13 PI3, C14 PI2, C15 PA11, D1 PC13, D2 PF0, D3 PI5, D4 PI7, D5 PI10, D6 PI6, D7 PK4, D8 PK3, D9 PG9, D10 PJ15, D11 PD4, D12 PD2, D13 PH15, D14 PI1, D15 PA10, E1 PC14, E2 PF1, E3 PI12, E4 PI9, E5 PDR_ON, E6 BOOT0, E7 VDD, E8 VDD, E9 VDD, E10 VDD, E11 VCAP2, E12 PH13, E13 PH14, E14 PI0, E15 PA9, F1 PC15, F2 VSS, F3 PI11, F4 VDD, F5 VDD, F6 VSS, F7 VSS, F8 VSS, F9 VSS, F10 VSS, F11 VDD, F12 DSIHOST_D1P, F13 DSIHOST_D1N, F14 PC9, F15 PA8, G1 PH0, G2 PF2, G3 PI13, G4 PI15, G5 VDD, G6 VSS, G10 VSS, G11 VDDUSB, G12 VSSDSI, G13 VDD12DSI, G14 PC8, G15 PC7, H1 PH1, H2 PF3, H3 PI14, H4 PH4, H5 VDD, H6 VSS, H10 VSS, H11 VDDDSI, H12 DSIHOST_CKP, H13 DSIHOST_CKN, H14 PG8, H15 PC6, J1 NRST, J2 PF4, J3 PH5, J4 PH3, J5 VDD, J6 VSS, J10 VSS, J11 VDD, J12 DSIHOST_D0P, J13 DSIHOST_D0N, J14 PG7, J15 PG6, K1 PF7, K2 PF6, K3 PF5, K4 PH2, K5 VDD, K6 VSS, K7 VSS, K8 VSS, K9 VSS, K10 VSS, K11 VDD, K12 VCAPDSI, K13 PD15, K14 PB13, K15 PD10, L1 PF10, L2 PF9, L3 PF8, L4 PC3, L5 BYPASS_REG, L6 VSS, L7 VDD, L8 VDD, L9 VDD, L10 VDD, L11 VCAP1, L12 PD14, L13 PB12, L14 PD9, L15 PD8, M1 VSSA, M2 PC0, M3 PC1, M4 PC2, M5 PB2, M6 PF12, M7 PG1, M8 PF15, M9 PJ4, M10 PD12, M11 PD13, M12 PG3, M13 PG2, M14 PJ5, M15 PH12, N1 VREF-, N2 PA1, N3 PA0, N4 PA4, N5 PC4, N6 PF13, N7 PG0, N8 PJ3, N9 PE8, N10 PD11, N11 PG5, N12 PG4, N13 PH7, N14 PH9, N15 PH11, P1 VREF+, P2 PA2, P3 PA6, P4 PA5, P5 PC5, P6 PF14, P7 PJ2, P8 PF11, P9 PE9, P10 PE11, P11 PE14, P12 PB10, P13 PH6, P14 PH8, P15 PH10, R1 VDDA, R2 PA3, R3 PA7, R4 PB1, R5 PB0, R6 PJ0, R7 PJ1, R8 PE7, R9 PE10, R10 PE12, R11 PE15, R12 PE13, R13 PB11, R14 PB14, R15 PB15

## STM32F469NEHx
designator *  value STM32F469NEHx  Reference: U
STMicroelectronics Arm Cortex-M4 MCU, 512KB flash, 384KB RAM, 180 MHz, 1.7-3.6V, 159 GPIO, TFBGA216; ki_keywords: Arm Cortex-M4 STM32F4 STM32F469/479; ki_fp_filters: TFBGA*13x13mm*Layout15x15*P0.8mm*; Footprint: Package_BGA:TFBGA-216_13x13mm_Layout15x15_P0.8mm; Datasheet: https://www.st.com/resource/en/datasheet/stm32f469ne.pdf; Description_: STMicroelectronics Arm Cortex-M4 MCU, 512KB flash, 384KB RAM, 180 MHz, 1.7-3.6V, 159 GPIO, TFBGA216
pins: A1 PE4, A2 PE3, A3 PE2, A4 PG14, A5 PE1, A6 PE0, A7 PB8, A8 PB5, A9 PB4, A10 PB3, A11 PD7, A12 PC12, A13 PA15, A14 PA14, A15 PA13, B1 PE5, B2 PE6, B3 PG13, B4 PB9, B5 PB7, B6 PB6, B7 PG15, B8 PG11, B9 PJ13, B10 PJ12, B11 PD6, B12 PD0, B13 PC11, B14 PC10, B15 PA12, C1 VBAT, C2 PI8, C3 PI4, C4 PK7, C5 PK6, C6 PK5, C7 PG12, C8 PG10, C9 PJ14, C10 PD5, C11 PD3, C12 PD1, C13 PI3, C14 PI2, C15 PA11, D1 PC13, D2 PF0, D3 PI5, D4 PI7, D5 PI10, D6 PI6, D7 PK4, D8 PK3, D9 PG9, D10 PJ15, D11 PD4, D12 PD2, D13 PH15, D14 PI1, D15 PA10, E1 PC14, E2 PF1, E3 PI12, E4 PI9, E5 PDR_ON, E6 BOOT0, E7 VDD, E8 VDD, E9 VDD, E10 VDD, E11 VCAP2, E12 PH13, E13 PH14, E14 PI0, E15 PA9, F1 PC15, F2 VSS, F3 PI11, F4 VDD, F5 VDD, F6 VSS, F7 VSS, F8 VSS, F9 VSS, F10 VSS, F11 VDD, F12 DSIHOST_D1P, F13 DSIHOST_D1N, F14 PC9, F15 PA8, G1 PH0, G2 PF2, G3 PI13, G4 PI15, G5 VDD, G6 VSS, G10 VSS, G11 VDDUSB, G12 VSSDSI, G13 VDD12DSI, G14 PC8, G15 PC7, H1 PH1, H2 PF3, H3 PI14, H4 PH4, H5 VDD, H6 VSS, H10 VSS, H11 VDDDSI, H12 DSIHOST_CKP, H13 DSIHOST_CKN, H14 PG8, H15 PC6, J1 NRST, J2 PF4, J3 PH5, J4 PH3, J5 VDD, J6 VSS, J10 VSS, J11 VDD, J12 DSIHOST_D0P, J13 DSIHOST_D0N, J14 PG7, J15 PG6, K1 PF7, K2 PF6, K3 PF5, K4 PH2, K5 VDD, K6 VSS, K7 VSS, K8 VSS, K9 VSS, K10 VSS, K11 VDD, K12 VCAPDSI, K13 PD15, K14 PB13, K15 PD10, L1 PF10, L2 PF9, L3 PF8, L4 PC3, L5 BYPASS_REG, L6 VSS, L7 VDD, L8 VDD, L9 VDD, L10 VDD, L11 VCAP1, L12 PD14, L13 PB12, L14 PD9, L15 PD8, M1 VSSA, M2 PC0, M3 PC1, M4 PC2, M5 PB2, M6 PF12, M7 PG1, M8 PF15, M9 PJ4, M10 PD12, M11 PD13, M12 PG3, M13 PG2, M14 PJ5, M15 PH12, N1 VREF-, N2 PA1, N3 PA0, N4 PA4, N5 PC4, N6 PF13, N7 PG0, N8 PJ3, N9 PE8, N10 PD11, N11 PG5, N12 PG4, N13 PH7, N14 PH9, N15 PH11, P1 VREF+, P2 PA2, P3 PA6, P4 PA5, P5 PC5, P6 PF14, P7 PJ2, P8 PF11, P9 PE9, P10 PE11, P11 PE14, P12 PB10, P13 PH6, P14 PH8, P15 PH10, R1 VDDA, R2 PA3, R3 PA7, R4 PB1, R5 PB0, R6 PJ0, R7 PJ1, R8 PE7, R9 PE10, R10 PE12, R11 PE15, R12 PE13, R13 PB11, R14 PB14, R15 PB15

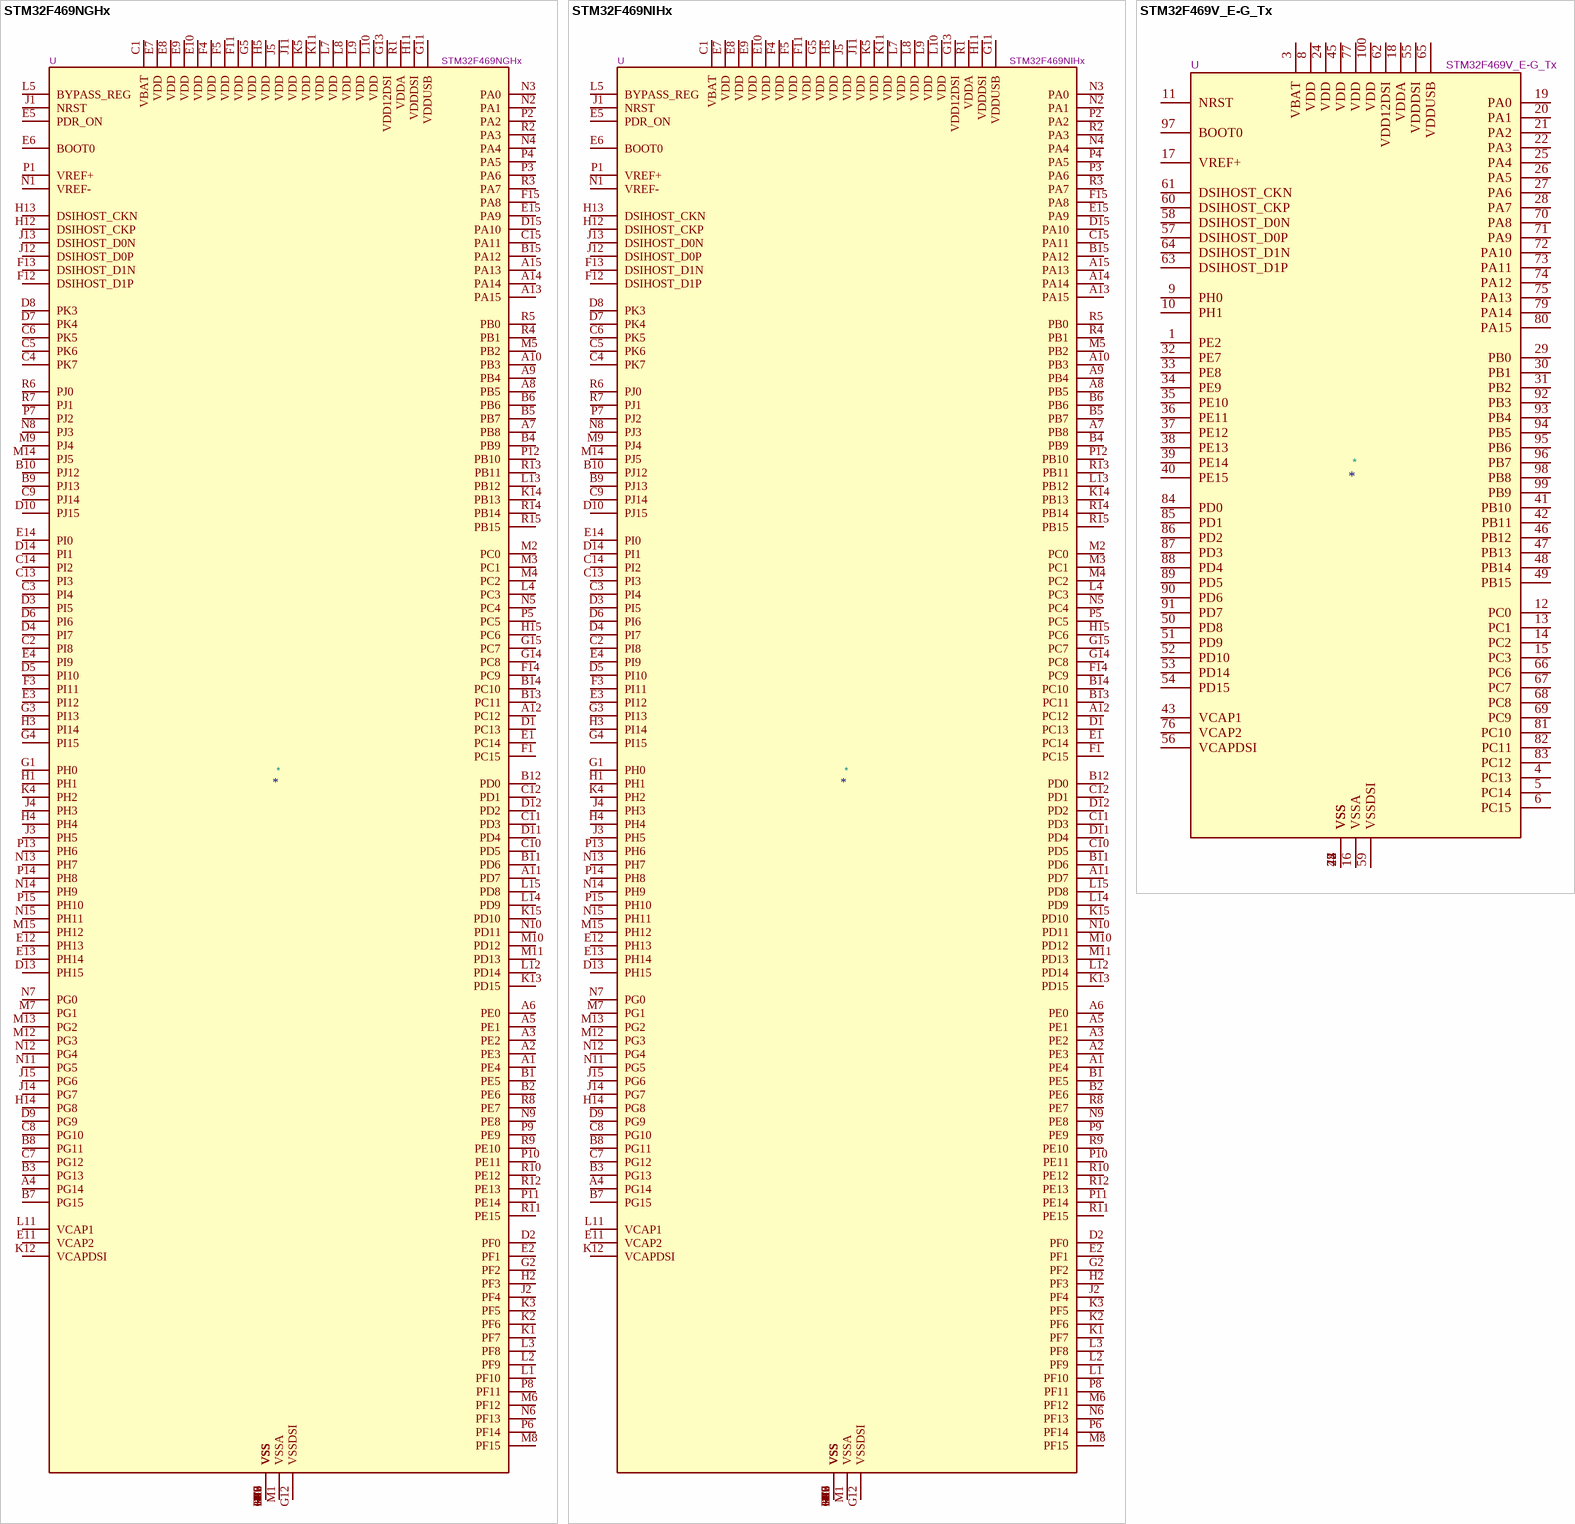
[diagram p70: symbols STM32F469NGHx to STM32F469V_E-G_Tx]

## STM32F469NGHx
designator *  value STM32F469NGHx  Reference: U
STMicroelectronics Arm Cortex-M4 MCU, 1024KB flash, 384KB RAM, 180 MHz, 1.7-3.6V, 159 GPIO, TFBGA216; ki_keywords: Arm Cortex-M4 STM32F4 STM32F469/479; ki_fp_filters: TFBGA*13x13mm*Layout15x15*P0.8mm*; Footprint: Package_BGA:TFBGA-216_13x13mm_Layout15x15_P0.8mm; Datasheet: https://www.st.com/resource/en/datasheet/stm32f469ng.pdf; Description_: STMicroelectronics Arm Cortex-M4 MCU, 1024KB flash, 384KB RAM, 180 MHz, 1.7-3.6V, 159 GPIO, TFBGA216
pins: A1 PE4, A2 PE3, A3 PE2, A4 PG14, A5 PE1, A6 PE0, A7 PB8, A8 PB5, A9 PB4, A10 PB3, A11 PD7, A12 PC12, A13 PA15, A14 PA14, A15 PA13, B1 PE5, B2 PE6, B3 PG13, B4 PB9, B5 PB7, B6 PB6, B7 PG15, B8 PG11, B9 PJ13, B10 PJ12, B11 PD6, B12 PD0, B13 PC11, B14 PC10, B15 PA12, C1 VBAT, C2 PI8, C3 PI4, C4 PK7, C5 PK6, C6 PK5, C7 PG12, C8 PG10, C9 PJ14, C10 PD5, C11 PD3, C12 PD1, C13 PI3, C14 PI2, C15 PA11, D1 PC13, D2 PF0, D3 PI5, D4 PI7, D5 PI10, D6 PI6, D7 PK4, D8 PK3, D9 PG9, D10 PJ15, D11 PD4, D12 PD2, D13 PH15, D14 PI1, D15 PA10, E1 PC14, E2 PF1, E3 PI12, E4 PI9, E5 PDR_ON, E6 BOOT0, E7 VDD, E8 VDD, E9 VDD, E10 VDD, E11 VCAP2, E12 PH13, E13 PH14, E14 PI0, E15 PA9, F1 PC15, F2 VSS, F3 PI11, F4 VDD, F5 VDD, F6 VSS, F7 VSS, F8 VSS, F9 VSS, F10 VSS, F11 VDD, F12 DSIHOST_D1P, F13 DSIHOST_D1N, F14 PC9, F15 PA8, G1 PH0, G2 PF2, G3 PI13, G4 PI15, G5 VDD, G6 VSS, G10 VSS, G11 VDDUSB, G12 VSSDSI, G13 VDD12DSI, G14 PC8, G15 PC7, H1 PH1, H2 PF3, H3 PI14, H4 PH4, H5 VDD, H6 VSS, H10 VSS, H11 VDDDSI, H12 DSIHOST_CKP, H13 DSIHOST_CKN, H14 PG8, H15 PC6, J1 NRST, J2 PF4, J3 PH5, J4 PH3, J5 VDD, J6 VSS, J10 VSS, J11 VDD, J12 DSIHOST_D0P, J13 DSIHOST_D0N, J14 PG7, J15 PG6, K1 PF7, K2 PF6, K3 PF5, K4 PH2, K5 VDD, K6 VSS, K7 VSS, K8 VSS, K9 VSS, K10 VSS, K11 VDD, K12 VCAPDSI, K13 PD15, K14 PB13, K15 PD10, L1 PF10, L2 PF9, L3 PF8, L4 PC3, L5 BYPASS_REG, L6 VSS, L7 VDD, L8 VDD, L9 VDD, L10 VDD, L11 VCAP1, L12 PD14, L13 PB12, L14 PD9, L15 PD8, M1 VSSA, M2 PC0, M3 PC1, M4 PC2, M5 PB2, M6 PF12, M7 PG1, M8 PF15, M9 PJ4, M10 PD12, M11 PD13, M12 PG3, M13 PG2, M14 PJ5, M15 PH12, N1 VREF-, N2 PA1, N3 PA0, N4 PA4, N5 PC4, N6 PF13, N7 PG0, N8 PJ3, N9 PE8, N10 PD11, N11 PG5, N12 PG4, N13 PH7, N14 PH9, N15 PH11, P1 VREF+, P2 PA2, P3 PA6, P4 PA5, P5 PC5, P6 PF14, P7 PJ2, P8 PF11, P9 PE9, P10 PE11, P11 PE14, P12 PB10, P13 PH6, P14 PH8, P15 PH10, R1 VDDA, R2 PA3, R3 PA7, R4 PB1, R5 PB0, R6 PJ0, R7 PJ1, R8 PE7, R9 PE10, R10 PE12, R11 PE15, R12 PE13, R13 PB11, R14 PB14, R15 PB15

## STM32F469NIHx
designator *  value STM32F469NIHx  Reference: U
STMicroelectronics Arm Cortex-M4 MCU, 2048KB flash, 384KB RAM, 180 MHz, 1.7-3.6V, 159 GPIO, TFBGA216; ki_keywords: Arm Cortex-M4 STM32F4 STM32F469/479; ki_fp_filters: TFBGA*13x13mm*Layout15x15*P0.8mm*; Footprint: Package_BGA:TFBGA-216_13x13mm_Layout15x15_P0.8mm; Datasheet: https://www.st.com/resource/en/datasheet/stm32f469ni.pdf; Description_: STMicroelectronics Arm Cortex-M4 MCU, 2048KB flash, 384KB RAM, 180 MHz, 1.7-3.6V, 159 GPIO, TFBGA216
pins: A1 PE4, A2 PE3, A3 PE2, A4 PG14, A5 PE1, A6 PE0, A7 PB8, A8 PB5, A9 PB4, A10 PB3, A11 PD7, A12 PC12, A13 PA15, A14 PA14, A15 PA13, B1 PE5, B2 PE6, B3 PG13, B4 PB9, B5 PB7, B6 PB6, B7 PG15, B8 PG11, B9 PJ13, B10 PJ12, B11 PD6, B12 PD0, B13 PC11, B14 PC10, B15 PA12, C1 VBAT, C2 PI8, C3 PI4, C4 PK7, C5 PK6, C6 PK5, C7 PG12, C8 PG10, C9 PJ14, C10 PD5, C11 PD3, C12 PD1, C13 PI3, C14 PI2, C15 PA11, D1 PC13, D2 PF0, D3 PI5, D4 PI7, D5 PI10, D6 PI6, D7 PK4, D8 PK3, D9 PG9, D10 PJ15, D11 PD4, D12 PD2, D13 PH15, D14 PI1, D15 PA10, E1 PC14, E2 PF1, E3 PI12, E4 PI9, E5 PDR_ON, E6 BOOT0, E7 VDD, E8 VDD, E9 VDD, E10 VDD, E11 VCAP2, E12 PH13, E13 PH14, E14 PI0, E15 PA9, F1 PC15, F2 VSS, F3 PI11, F4 VDD, F5 VDD, F6 VSS, F7 VSS, F8 VSS, F9 VSS, F10 VSS, F11 VDD, F12 DSIHOST_D1P, F13 DSIHOST_D1N, F14 PC9, F15 PA8, G1 PH0, G2 PF2, G3 PI13, G4 PI15, G5 VDD, G6 VSS, G10 VSS, G11 VDDUSB, G12 VSSDSI, G13 VDD12DSI, G14 PC8, G15 PC7, H1 PH1, H2 PF3, H3 PI14, H4 PH4, H5 VDD, H6 VSS, H10 VSS, H11 VDDDSI, H12 DSIHOST_CKP, H13 DSIHOST_CKN, H14 PG8, H15 PC6, J1 NRST, J2 PF4, J3 PH5, J4 PH3, J5 VDD, J6 VSS, J10 VSS, J11 VDD, J12 DSIHOST_D0P, J13 DSIHOST_D0N, J14 PG7, J15 PG6, K1 PF7, K2 PF6, K3 PF5, K4 PH2, K5 VDD, K6 VSS, K7 VSS, K8 VSS, K9 VSS, K10 VSS, K11 VDD, K12 VCAPDSI, K13 PD15, K14 PB13, K15 PD10, L1 PF10, L2 PF9, L3 PF8, L4 PC3, L5 BYPASS_REG, L6 VSS, L7 VDD, L8 VDD, L9 VDD, L10 VDD, L11 VCAP1, L12 PD14, L13 PB12, L14 PD9, L15 PD8, M1 VSSA, M2 PC0, M3 PC1, M4 PC2, M5 PB2, M6 PF12, M7 PG1, M8 PF15, M9 PJ4, M10 PD12, M11 PD13, M12 PG3, M13 PG2, M14 PJ5, M15 PH12, N1 VREF-, N2 PA1, N3 PA0, N4 PA4, N5 PC4, N6 PF13, N7 PG0, N8 PJ3, N9 PE8, N10 PD11, N11 PG5, N12 PG4, N13 PH7, N14 PH9, N15 PH11, P1 VREF+, P2 PA2, P3 PA6, P4 PA5, P5 PC5, P6 PF14, P7 PJ2, P8 PF11, P9 PE9, P10 PE11, P11 PE14, P12 PB10, P13 PH6, P14 PH8, P15 PH10, R1 VDDA, R2 PA3, R3 PA7, R4 PB1, R5 PB0, R6 PJ0, R7 PJ1, R8 PE7, R9 PE10, R10 PE12, R11 PE15, R12 PE13, R13 PB11, R14 PB14, R15 PB15

## STM32F469V_E-G_Tx
designator *  value STM32F469V_E-G_Tx  Reference: U
STMicroelectronics Arm Cortex-M4 MCU, 512-1024KB flash, 384KB RAM, 180 MHz, 1.7-3.6V, 71 GPIO, LQFP100; ki_keywords: Arm Cortex-M4 STM32F4 STM32F469/479; ki_fp_filters: LQFP*14x14mm*P0.5mm*; Footprint: Package_QFP:LQFP-100_14x14mm_P0.5mm; Datasheet: https://www.st.com/resource/en/datasheet/stm32f469ve.pdf; Description_: STMicroelectronics Arm Cortex-M4 MCU, 512-1024KB flash, 384KB RAM, 180 MHz, 1.7-3.6V, 71 GPIO, LQFP100
pins: 1 PE2, 2 VSS, 3 VBAT, 4 PC13, 5 PC14, 6 PC15, 7 VSS, 8 VDD, 9 PH0, 10 PH1, 11 NRST, 12 PC0, 13 PC1, 14 PC2, 15 PC3, 16 VSSA, 17 VREF+, 18 VDDA, 19 PA0, 20 PA1, 21 PA2, 22 PA3, 23 VSS, 24 VDD, 25 PA4, 26 PA5, 27 PA6, 28 PA7, 29 PB0, 30 PB1, 31 PB2, 32 PE7, 33 PE8, 34 PE9, 35 PE10, 36 PE11, 37 PE12, 38 PE13, 39 PE14, 40 PE15, 41 PB10, 42 PB11, 43 VCAP1, 44 VSS, 45 VDD, 46 PB12, 47 PB13, 48 PB14, 49 PB15, 50 PD8, 51 PD9, 52 PD10, 53 PD14, 54 PD15, 55 VDDDSI, 56 VCAPDSI, 57 DSIHOST_D0P, 58 DSIHOST_D0N, 59 VSSDSI, 60 DSIHOST_CKP, 61 DSIHOST_CKN, 62 VDD12DSI, 63 DSIHOST_D1P, 64 DSIHOST_D1N, 65 VDDUSB, 66 PC6, 67 PC7, 68 PC8, 69 PC9, 70 PA8, 71 PA9, 72 PA10, 73 PA11, 74 PA12, 75 PA13, 76 VCAP2, 77 VDD, 78 VSS, 79 PA14, 80 PA15, 81 PC10, 82 PC11, 83 PC12, 84 PD0, 85 PD1, 86 PD2, 87 PD3, 88 PD4, 89 PD5, 90 PD6, 91 PD7, 92 PB3, 93 PB4, 94 PB5, 95 PB6, 96 PB7, 97 BOOT0, 98 PB8, 99 PB9, 100 VDD

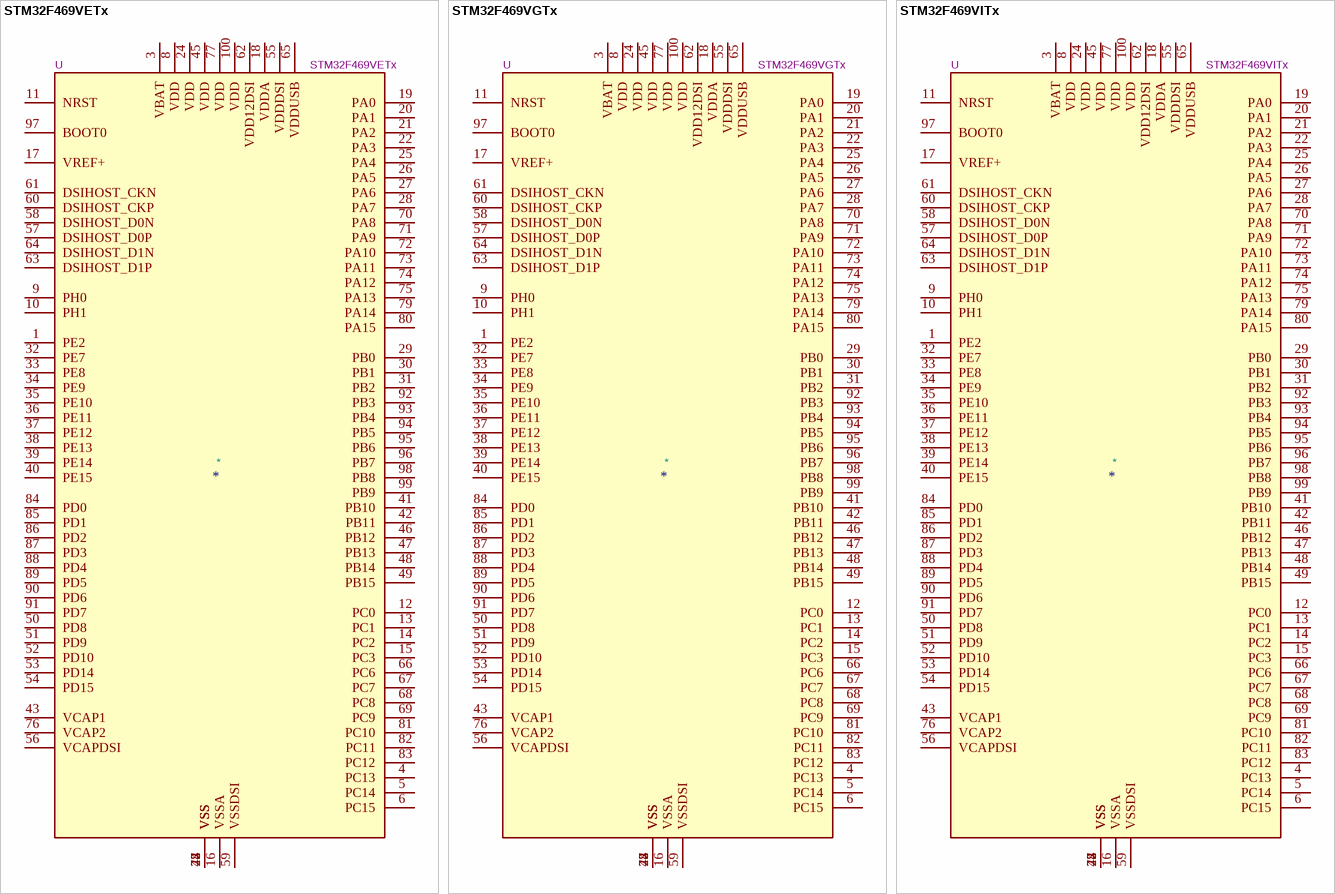
[diagram p71: symbols STM32F469VETx to STM32F469VITx]

## STM32F469VETx
designator *  value STM32F469VETx  Reference: U
STMicroelectronics Arm Cortex-M4 MCU, 512KB flash, 384KB RAM, 180 MHz, 1.7-3.6V, 71 GPIO, LQFP100; ki_keywords: Arm Cortex-M4 STM32F4 STM32F469/479; ki_fp_filters: LQFP*14x14mm*P0.5mm*; Footprint: Package_QFP:LQFP-100_14x14mm_P0.5mm; Datasheet: https://www.st.com/resource/en/datasheet/stm32f469ve.pdf; Description_: STMicroelectronics Arm Cortex-M4 MCU, 512KB flash, 384KB RAM, 180 MHz, 1.7-3.6V, 71 GPIO, LQFP100
pins: 1 PE2, 2 VSS, 3 VBAT, 4 PC13, 5 PC14, 6 PC15, 7 VSS, 8 VDD, 9 PH0, 10 PH1, 11 NRST, 12 PC0, 13 PC1, 14 PC2, 15 PC3, 16 VSSA, 17 VREF+, 18 VDDA, 19 PA0, 20 PA1, 21 PA2, 22 PA3, 23 VSS, 24 VDD, 25 PA4, 26 PA5, 27 PA6, 28 PA7, 29 PB0, 30 PB1, 31 PB2, 32 PE7, 33 PE8, 34 PE9, 35 PE10, 36 PE11, 37 PE12, 38 PE13, 39 PE14, 40 PE15, 41 PB10, 42 PB11, 43 VCAP1, 44 VSS, 45 VDD, 46 PB12, 47 PB13, 48 PB14, 49 PB15, 50 PD8, 51 PD9, 52 PD10, 53 PD14, 54 PD15, 55 VDDDSI, 56 VCAPDSI, 57 DSIHOST_D0P, 58 DSIHOST_D0N, 59 VSSDSI, 60 DSIHOST_CKP, 61 DSIHOST_CKN, 62 VDD12DSI, 63 DSIHOST_D1P, 64 DSIHOST_D1N, 65 VDDUSB, 66 PC6, 67 PC7, 68 PC8, 69 PC9, 70 PA8, 71 PA9, 72 PA10, 73 PA11, 74 PA12, 75 PA13, 76 VCAP2, 77 VDD, 78 VSS, 79 PA14, 80 PA15, 81 PC10, 82 PC11, 83 PC12, 84 PD0, 85 PD1, 86 PD2, 87 PD3, 88 PD4, 89 PD5, 90 PD6, 91 PD7, 92 PB3, 93 PB4, 94 PB5, 95 PB6, 96 PB7, 97 BOOT0, 98 PB8, 99 PB9, 100 VDD

## STM32F469VGTx
designator *  value STM32F469VGTx  Reference: U
STMicroelectronics Arm Cortex-M4 MCU, 1024KB flash, 384KB RAM, 180 MHz, 1.7-3.6V, 71 GPIO, LQFP100; ki_keywords: Arm Cortex-M4 STM32F4 STM32F469/479; ki_fp_filters: LQFP*14x14mm*P0.5mm*; Footprint: Package_QFP:LQFP-100_14x14mm_P0.5mm; Datasheet: https://www.st.com/resource/en/datasheet/stm32f469vg.pdf; Description_: STMicroelectronics Arm Cortex-M4 MCU, 1024KB flash, 384KB RAM, 180 MHz, 1.7-3.6V, 71 GPIO, LQFP100
pins: 1 PE2, 2 VSS, 3 VBAT, 4 PC13, 5 PC14, 6 PC15, 7 VSS, 8 VDD, 9 PH0, 10 PH1, 11 NRST, 12 PC0, 13 PC1, 14 PC2, 15 PC3, 16 VSSA, 17 VREF+, 18 VDDA, 19 PA0, 20 PA1, 21 PA2, 22 PA3, 23 VSS, 24 VDD, 25 PA4, 26 PA5, 27 PA6, 28 PA7, 29 PB0, 30 PB1, 31 PB2, 32 PE7, 33 PE8, 34 PE9, 35 PE10, 36 PE11, 37 PE12, 38 PE13, 39 PE14, 40 PE15, 41 PB10, 42 PB11, 43 VCAP1, 44 VSS, 45 VDD, 46 PB12, 47 PB13, 48 PB14, 49 PB15, 50 PD8, 51 PD9, 52 PD10, 53 PD14, 54 PD15, 55 VDDDSI, 56 VCAPDSI, 57 DSIHOST_D0P, 58 DSIHOST_D0N, 59 VSSDSI, 60 DSIHOST_CKP, 61 DSIHOST_CKN, 62 VDD12DSI, 63 DSIHOST_D1P, 64 DSIHOST_D1N, 65 VDDUSB, 66 PC6, 67 PC7, 68 PC8, 69 PC9, 70 PA8, 71 PA9, 72 PA10, 73 PA11, 74 PA12, 75 PA13, 76 VCAP2, 77 VDD, 78 VSS, 79 PA14, 80 PA15, 81 PC10, 82 PC11, 83 PC12, 84 PD0, 85 PD1, 86 PD2, 87 PD3, 88 PD4, 89 PD5, 90 PD6, 91 PD7, 92 PB3, 93 PB4, 94 PB5, 95 PB6, 96 PB7, 97 BOOT0, 98 PB8, 99 PB9, 100 VDD

## STM32F469VITx
designator *  value STM32F469VITx  Reference: U
STMicroelectronics Arm Cortex-M4 MCU, 2048KB flash, 384KB RAM, 180 MHz, 1.7-3.6V, 71 GPIO, LQFP100; ki_keywords: Arm Cortex-M4 STM32F4 STM32F469/479; ki_fp_filters: LQFP*14x14mm*P0.5mm*; Footprint: Package_QFP:LQFP-100_14x14mm_P0.5mm; Datasheet: https://www.st.com/resource/en/datasheet/stm32f469vi.pdf; Description_: STMicroelectronics Arm Cortex-M4 MCU, 2048KB flash, 384KB RAM, 180 MHz, 1.7-3.6V, 71 GPIO, LQFP100
pins: 1 PE2, 2 VSS, 3 VBAT, 4 PC13, 5 PC14, 6 PC15, 7 VSS, 8 VDD, 9 PH0, 10 PH1, 11 NRST, 12 PC0, 13 PC1, 14 PC2, 15 PC3, 16 VSSA, 17 VREF+, 18 VDDA, 19 PA0, 20 PA1, 21 PA2, 22 PA3, 23 VSS, 24 VDD, 25 PA4, 26 PA5, 27 PA6, 28 PA7, 29 PB0, 30 PB1, 31 PB2, 32 PE7, 33 PE8, 34 PE9, 35 PE10, 36 PE11, 37 PE12, 38 PE13, 39 PE14, 40 PE15, 41 PB10, 42 PB11, 43 VCAP1, 44 VSS, 45 VDD, 46 PB12, 47 PB13, 48 PB14, 49 PB15, 50 PD8, 51 PD9, 52 PD10, 53 PD14, 54 PD15, 55 VDDDSI, 56 VCAPDSI, 57 DSIHOST_D0P, 58 DSIHOST_D0N, 59 VSSDSI, 60 DSIHOST_CKP, 61 DSIHOST_CKN, 62 VDD12DSI, 63 DSIHOST_D1P, 64 DSIHOST_D1N, 65 VDDUSB, 66 PC6, 67 PC7, 68 PC8, 69 PC9, 70 PA8, 71 PA9, 72 PA10, 73 PA11, 74 PA12, 75 PA13, 76 VCAP2, 77 VDD, 78 VSS, 79 PA14, 80 PA15, 81 PC10, 82 PC11, 83 PC12, 84 PD0, 85 PD1, 86 PD2, 87 PD3, 88 PD4, 89 PD5, 90 PD6, 91 PD7, 92 PB3, 93 PB4, 94 PB5, 95 PB6, 96 PB7, 97 BOOT0, 98 PB8, 99 PB9, 100 VDD

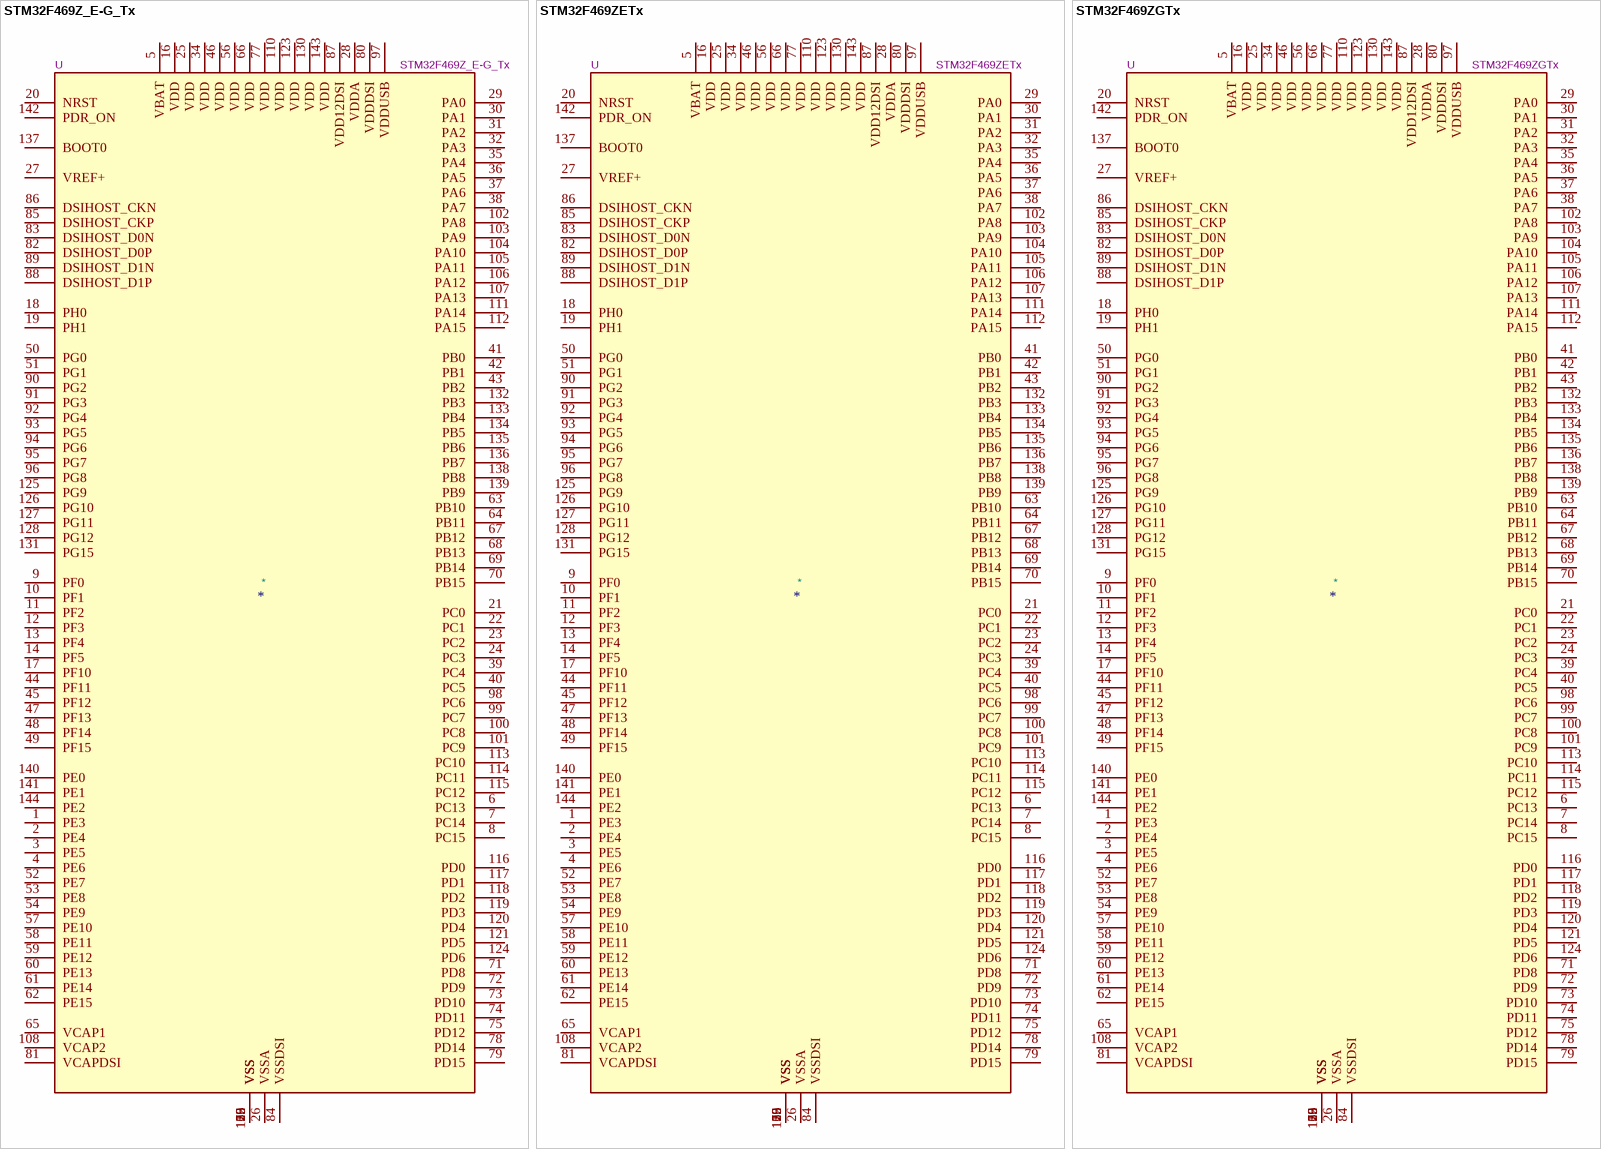
[diagram p72: symbols STM32F469Z_E-G_Tx to STM32F469ZGTx]

## STM32F469Z_E-G_Tx
designator *  value STM32F469Z_E-G_Tx  Reference: U
STMicroelectronics Arm Cortex-M4 MCU, 512-1024KB flash, 384KB RAM, 180 MHz, 1.7-3.6V, 106 GPIO, LQFP144; ki_keywords: Arm Cortex-M4 STM32F4 STM32F469/479; ki_fp_filters: LQFP*20x20mm*P0.5mm*; Footprint: Package_QFP:LQFP-144_20x20mm_P0.5mm; Datasheet: https://www.st.com/resource/en/datasheet/stm32f469ze.pdf; Description_: STMicroelectronics Arm Cortex-M4 MCU, 512-1024KB flash, 384KB RAM, 180 MHz, 1.7-3.6V, 106 GPIO, LQFP144
pins: 1 PE3, 2 PE4, 3 PE5, 4 PE6, 5 VBAT, 6 PC13, 7 PC14, 8 PC15, 9 PF0, 10 PF1, 11 PF2, 12 PF3, 13 PF4, 14 PF5, 15 VSS, 16 VDD, 17 PF10, 18 PH0, 19 PH1, 20 NRST, 21 PC0, 22 PC1, 23 PC2, 24 PC3, 25 VDD, 26 VSSA, 27 VREF+, 28 VDDA, 29 PA0, 30 PA1, 31 PA2, 32 PA3, 33 VSS, 34 VDD, 35 PA4, 36 PA5, 37 PA6, 38 PA7, 39 PC4, 40 PC5, 41 PB0, 42 PB1, 43 PB2, 44 PF11, 45 PF12, 46 VDD, 47 PF13, 48 PF14, 49 PF15, 50 PG0, 51 PG1, 52 PE7, 53 PE8, 54 PE9, 55 VSS, 56 VDD, 57 PE10, 58 PE11, 59 PE12, 60 PE13, 61 PE14, 62 PE15, 63 PB10, 64 PB11, 65 VCAP1, 66 VDD, 67 PB12, 68 PB13, 69 PB14, 70 PB15, 71 PD8, 72 PD9, 73 PD10, 74 PD11, 75 PD12, 76 VSS, 77 VDD, 78 PD14, 79 PD15, 80 VDDDSI, 81 VCAPDSI, 82 DSIHOST_D0P, 83 DSIHOST_D0N, 84 VSSDSI, 85 DSIHOST_CKP, 86 DSIHOST_CKN, 87 VDD12DSI, 88 DSIHOST_D1P, 89 DSIHOST_D1N, 90 PG2, 91 PG3, 92 PG4, 93 PG5, 94 PG6, 95 PG7, 96 PG8, 97 VDDUSB, 98 PC6, 99 PC7, 100 PC8, 101 PC9, 102 PA8, 103 PA9, 104 PA10, 105 PA11, 106 PA12, 107 PA13, 108 VCAP2, 109 VSS, 110 VDD, 111 PA14, 112 PA15, 113 PC10, 114 PC11, 115 PC12, 116 PD0, 117 PD1, 118 PD2, 119 PD3, 120 PD4, 121 PD5, 122 VSS, 123 VDD, 124 PD6, 125 PG9, 126 PG10, 127 PG11, 128 PG12, 129 VSS, 130 VDD, 131 PG15, 132 PB3, 133 PB4, 134 PB5, 135 PB6, 136 PB7, 137 BOOT0, 138 PB8, 139 PB9, 140 PE0, 141 PE1, 142 PDR_ON, 143 VDD, 144 PE2

## STM32F469ZETx
designator *  value STM32F469ZETx  Reference: U
STMicroelectronics Arm Cortex-M4 MCU, 512KB flash, 384KB RAM, 180 MHz, 1.7-3.6V, 106 GPIO, LQFP144; ki_keywords: Arm Cortex-M4 STM32F4 STM32F469/479; ki_fp_filters: LQFP*20x20mm*P0.5mm*; Footprint: Package_QFP:LQFP-144_20x20mm_P0.5mm; Datasheet: https://www.st.com/resource/en/datasheet/stm32f469ze.pdf; Description_: STMicroelectronics Arm Cortex-M4 MCU, 512KB flash, 384KB RAM, 180 MHz, 1.7-3.6V, 106 GPIO, LQFP144
pins: 1 PE3, 2 PE4, 3 PE5, 4 PE6, 5 VBAT, 6 PC13, 7 PC14, 8 PC15, 9 PF0, 10 PF1, 11 PF2, 12 PF3, 13 PF4, 14 PF5, 15 VSS, 16 VDD, 17 PF10, 18 PH0, 19 PH1, 20 NRST, 21 PC0, 22 PC1, 23 PC2, 24 PC3, 25 VDD, 26 VSSA, 27 VREF+, 28 VDDA, 29 PA0, 30 PA1, 31 PA2, 32 PA3, 33 VSS, 34 VDD, 35 PA4, 36 PA5, 37 PA6, 38 PA7, 39 PC4, 40 PC5, 41 PB0, 42 PB1, 43 PB2, 44 PF11, 45 PF12, 46 VDD, 47 PF13, 48 PF14, 49 PF15, 50 PG0, 51 PG1, 52 PE7, 53 PE8, 54 PE9, 55 VSS, 56 VDD, 57 PE10, 58 PE11, 59 PE12, 60 PE13, 61 PE14, 62 PE15, 63 PB10, 64 PB11, 65 VCAP1, 66 VDD, 67 PB12, 68 PB13, 69 PB14, 70 PB15, 71 PD8, 72 PD9, 73 PD10, 74 PD11, 75 PD12, 76 VSS, 77 VDD, 78 PD14, 79 PD15, 80 VDDDSI, 81 VCAPDSI, 82 DSIHOST_D0P, 83 DSIHOST_D0N, 84 VSSDSI, 85 DSIHOST_CKP, 86 DSIHOST_CKN, 87 VDD12DSI, 88 DSIHOST_D1P, 89 DSIHOST_D1N, 90 PG2, 91 PG3, 92 PG4, 93 PG5, 94 PG6, 95 PG7, 96 PG8, 97 VDDUSB, 98 PC6, 99 PC7, 100 PC8, 101 PC9, 102 PA8, 103 PA9, 104 PA10, 105 PA11, 106 PA12, 107 PA13, 108 VCAP2, 109 VSS, 110 VDD, 111 PA14, 112 PA15, 113 PC10, 114 PC11, 115 PC12, 116 PD0, 117 PD1, 118 PD2, 119 PD3, 120 PD4, 121 PD5, 122 VSS, 123 VDD, 124 PD6, 125 PG9, 126 PG10, 127 PG11, 128 PG12, 129 VSS, 130 VDD, 131 PG15, 132 PB3, 133 PB4, 134 PB5, 135 PB6, 136 PB7, 137 BOOT0, 138 PB8, 139 PB9, 140 PE0, 141 PE1, 142 PDR_ON, 143 VDD, 144 PE2

## STM32F469ZGTx
designator *  value STM32F469ZGTx  Reference: U
STMicroelectronics Arm Cortex-M4 MCU, 1024KB flash, 384KB RAM, 180 MHz, 1.7-3.6V, 106 GPIO, LQFP144; ki_keywords: Arm Cortex-M4 STM32F4 STM32F469/479; ki_fp_filters: LQFP*20x20mm*P0.5mm*; Footprint: Package_QFP:LQFP-144_20x20mm_P0.5mm; Datasheet: https://www.st.com/resource/en/datasheet/stm32f469zg.pdf; Description_: STMicroelectronics Arm Cortex-M4 MCU, 1024KB flash, 384KB RAM, 180 MHz, 1.7-3.6V, 106 GPIO, LQFP144
pins: 1 PE3, 2 PE4, 3 PE5, 4 PE6, 5 VBAT, 6 PC13, 7 PC14, 8 PC15, 9 PF0, 10 PF1, 11 PF2, 12 PF3, 13 PF4, 14 PF5, 15 VSS, 16 VDD, 17 PF10, 18 PH0, 19 PH1, 20 NRST, 21 PC0, 22 PC1, 23 PC2, 24 PC3, 25 VDD, 26 VSSA, 27 VREF+, 28 VDDA, 29 PA0, 30 PA1, 31 PA2, 32 PA3, 33 VSS, 34 VDD, 35 PA4, 36 PA5, 37 PA6, 38 PA7, 39 PC4, 40 PC5, 41 PB0, 42 PB1, 43 PB2, 44 PF11, 45 PF12, 46 VDD, 47 PF13, 48 PF14, 49 PF15, 50 PG0, 51 PG1, 52 PE7, 53 PE8, 54 PE9, 55 VSS, 56 VDD, 57 PE10, 58 PE11, 59 PE12, 60 PE13, 61 PE14, 62 PE15, 63 PB10, 64 PB11, 65 VCAP1, 66 VDD, 67 PB12, 68 PB13, 69 PB14, 70 PB15, 71 PD8, 72 PD9, 73 PD10, 74 PD11, 75 PD12, 76 VSS, 77 VDD, 78 PD14, 79 PD15, 80 VDDDSI, 81 VCAPDSI, 82 DSIHOST_D0P, 83 DSIHOST_D0N, 84 VSSDSI, 85 DSIHOST_CKP, 86 DSIHOST_CKN, 87 VDD12DSI, 88 DSIHOST_D1P, 89 DSIHOST_D1N, 90 PG2, 91 PG3, 92 PG4, 93 PG5, 94 PG6, 95 PG7, 96 PG8, 97 VDDUSB, 98 PC6, 99 PC7, 100 PC8, 101 PC9, 102 PA8, 103 PA9, 104 PA10, 105 PA11, 106 PA12, 107 PA13, 108 VCAP2, 109 VSS, 110 VDD, 111 PA14, 112 PA15, 113 PC10, 114 PC11, 115 PC12, 116 PD0, 117 PD1, 118 PD2, 119 PD3, 120 PD4, 121 PD5, 122 VSS, 123 VDD, 124 PD6, 125 PG9, 126 PG10, 127 PG11, 128 PG12, 129 VSS, 130 VDD, 131 PG15, 132 PB3, 133 PB4, 134 PB5, 135 PB6, 136 PB7, 137 BOOT0, 138 PB8, 139 PB9, 140 PE0, 141 PE1, 142 PDR_ON, 143 VDD, 144 PE2

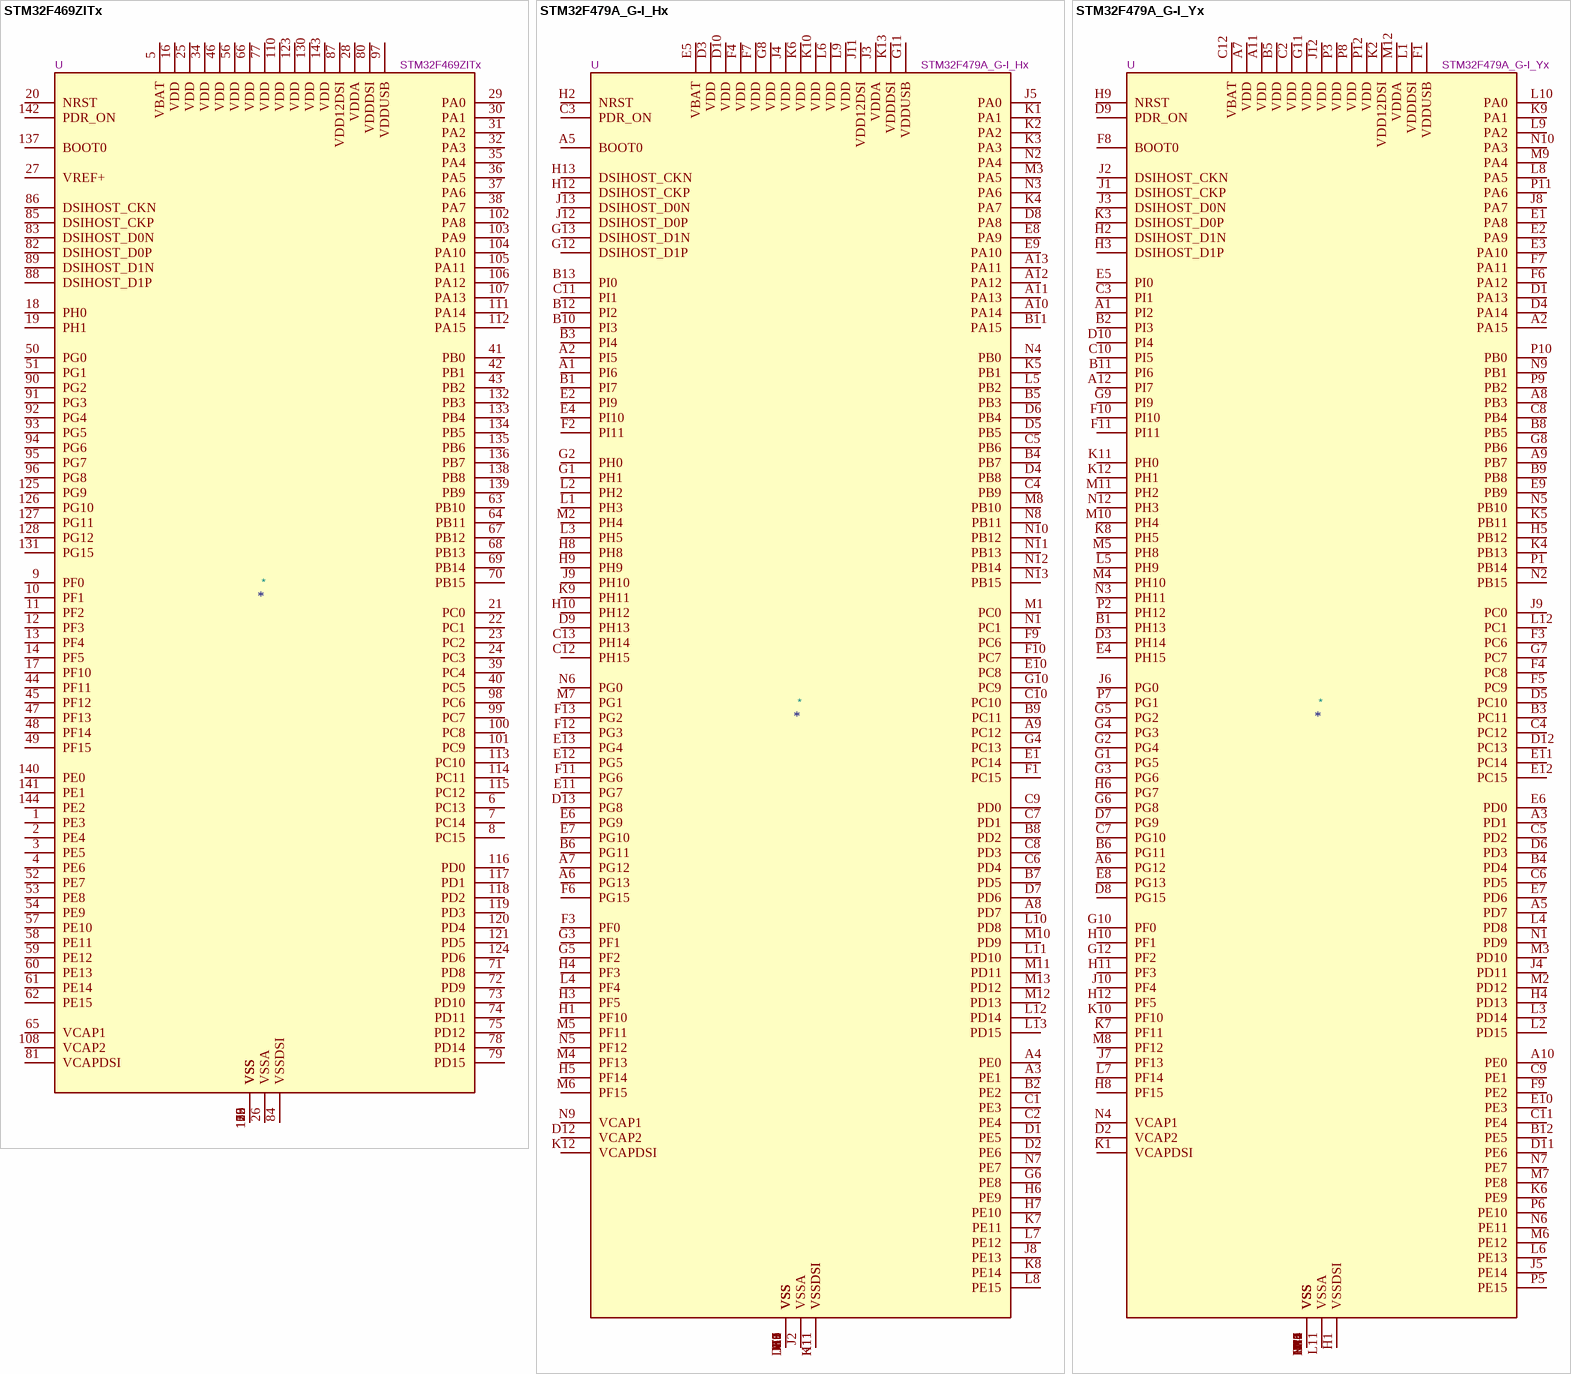
[diagram p73: symbols STM32F469ZITx to STM32F479A_G-I_Yx]

## STM32F469ZITx
designator *  value STM32F469ZITx  Reference: U
STMicroelectronics Arm Cortex-M4 MCU, 2048KB flash, 384KB RAM, 180 MHz, 1.7-3.6V, 106 GPIO, LQFP144; ki_keywords: Arm Cortex-M4 STM32F4 STM32F469/479; ki_fp_filters: LQFP*20x20mm*P0.5mm*; Footprint: Package_QFP:LQFP-144_20x20mm_P0.5mm; Datasheet: https://www.st.com/resource/en/datasheet/stm32f469zi.pdf; Description_: STMicroelectronics Arm Cortex-M4 MCU, 2048KB flash, 384KB RAM, 180 MHz, 1.7-3.6V, 106 GPIO, LQFP144
pins: 1 PE3, 2 PE4, 3 PE5, 4 PE6, 5 VBAT, 6 PC13, 7 PC14, 8 PC15, 9 PF0, 10 PF1, 11 PF2, 12 PF3, 13 PF4, 14 PF5, 15 VSS, 16 VDD, 17 PF10, 18 PH0, 19 PH1, 20 NRST, 21 PC0, 22 PC1, 23 PC2, 24 PC3, 25 VDD, 26 VSSA, 27 VREF+, 28 VDDA, 29 PA0, 30 PA1, 31 PA2, 32 PA3, 33 VSS, 34 VDD, 35 PA4, 36 PA5, 37 PA6, 38 PA7, 39 PC4, 40 PC5, 41 PB0, 42 PB1, 43 PB2, 44 PF11, 45 PF12, 46 VDD, 47 PF13, 48 PF14, 49 PF15, 50 PG0, 51 PG1, 52 PE7, 53 PE8, 54 PE9, 55 VSS, 56 VDD, 57 PE10, 58 PE11, 59 PE12, 60 PE13, 61 PE14, 62 PE15, 63 PB10, 64 PB11, 65 VCAP1, 66 VDD, 67 PB12, 68 PB13, 69 PB14, 70 PB15, 71 PD8, 72 PD9, 73 PD10, 74 PD11, 75 PD12, 76 VSS, 77 VDD, 78 PD14, 79 PD15, 80 VDDDSI, 81 VCAPDSI, 82 DSIHOST_D0P, 83 DSIHOST_D0N, 84 VSSDSI, 85 DSIHOST_CKP, 86 DSIHOST_CKN, 87 VDD12DSI, 88 DSIHOST_D1P, 89 DSIHOST_D1N, 90 PG2, 91 PG3, 92 PG4, 93 PG5, 94 PG6, 95 PG7, 96 PG8, 97 VDDUSB, 98 PC6, 99 PC7, 100 PC8, 101 PC9, 102 PA8, 103 PA9, 104 PA10, 105 PA11, 106 PA12, 107 PA13, 108 VCAP2, 109 VSS, 110 VDD, 111 PA14, 112 PA15, 113 PC10, 114 PC11, 115 PC12, 116 PD0, 117 PD1, 118 PD2, 119 PD3, 120 PD4, 121 PD5, 122 VSS, 123 VDD, 124 PD6, 125 PG9, 126 PG10, 127 PG11, 128 PG12, 129 VSS, 130 VDD, 131 PG15, 132 PB3, 133 PB4, 134 PB5, 135 PB6, 136 PB7, 137 BOOT0, 138 PB8, 139 PB9, 140 PE0, 141 PE1, 142 PDR_ON, 143 VDD, 144 PE2